# Altium integrated library Xilinx Virtex.IntLib: 240 symbols (part 9 of 34)
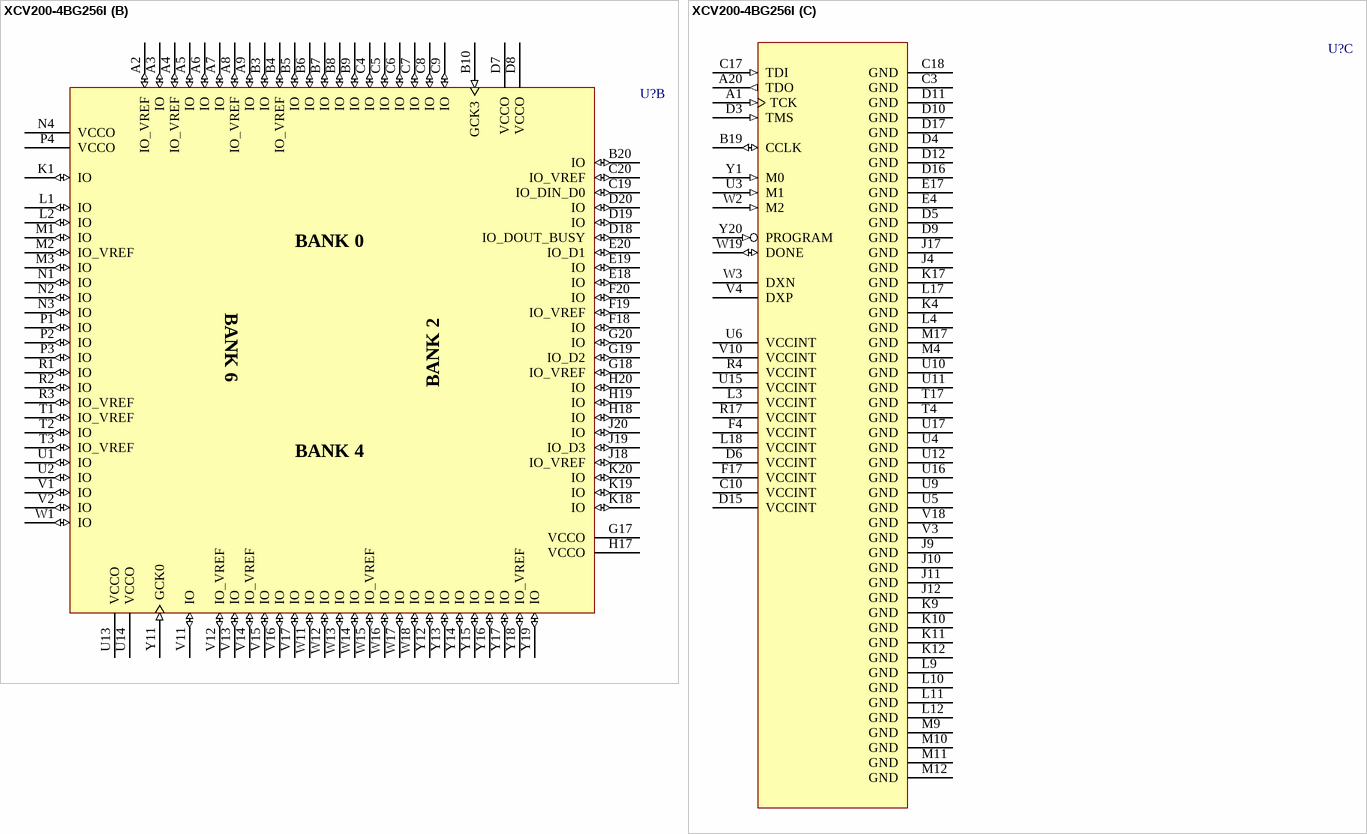
[diagram p388: symbol XCV200-4BG256I]

## XCV200-4BG256I
designator U?
Virtex 2.5V FPGA, 256-Ball Thermally Enhanced BGA, Industrial Grade; PackageDocument: ver1.1, Apr-2001; Note: Solder pads are defined by the copper, i.e. non-soldermask defined (NSMD); 16 extra balls (grounded) at package center; Published: 19-Sep-2001; LatestRevisionDate: 17-Jul-2002; LatestRevisionNote: Re-released for DXP Platform.; DatasheetDocument: Dec-2002; PackageReference: BG256TE; Publisher: Altium Limited
footprint BG256TE (272-Ball Plastic Ball Grid Array (Thermally Enhanced BG256))
3D model XCV200-BG256TE (272-Ball Plastic Ball Grid Array (Thermally Enhanced BG256))
signal-integrity model XCV200_BG256 (Virtex)
part A pins: A10 GCK2 (in), A11 IO (io), A12 IO (io), A13 IO (io), A14 IO (io), A15 IO (io), A16 IO (io), A17 IO_VREF (io), A18 IO (io), A19 IO_WRITE (io), B1 IO (io), B2 IO_VREF (io), B11 IO (io), B12 IO_VREF (io), B13 IO (io), B14 IO (io), B15 IO_VREF (io), B16 IO (io), B17 IO_VREF (io), B18 IO_CS (io), C1 IO (io), C2 IO (io), C11 IO (io), C12 IO (io), C13 IO (io), C14 IO (io), C15 IO (io), C16 IO (io), D1 IO_VREF (io), D2 IO (io), D13 VCCO (power), D14 VCCO (power), E1 IO (io), E2 IO (io), E3 IO (io), F1 IO (io), F2 IO (io), F3 IO (io), G1 IO (io), G2 IO (io), G3 IO_VREF (io), G4 VCCO (power), H1 IO_VREF (io), H2 IO (io), H3 IO (io), H4 VCCO (power), J1 IO (io), J2 IO (io), J3 IO (io), K2 IO (io), K3 IO (io), L19 IO (io), L20 IO (io), M18 IO_VREF (io), M19 IO_D4 (io), M20 IO (io), N17 VCCO (power), N18 IO (io), N19 IO (io), N20 IO (io), P17 VCCO (power), P18 IO_VREF (io), P19 IO_D5 (io), P20 IO (io), R18 IO (io), R19 IO_VREF (io), R20 IO (io), T18 IO (io), T19 IO (io), T20 IO_D6 (io), U7 VCCO (power), U8 VCCO (power), U18 IO_INIT (io), U19 IO (io), U20 IO (io), V5 IO (io), V6 IO (io), V7 IO_VREF (io), V8 IO (io), V9 IO_VREF (io), V19 IO_D7 (io), V20 IO_VREF (io), W4 IO (io), W5 IO (io), W6 IO_VREF (io), W7 IO (io), W8 IO (io), W9 IO (io), W10 IO (io), W20 IO (io), Y2 IO (io), Y3 IO_VREF (io), Y4 IO (io), Y5 IO (io), Y6 IO (io), Y7 IO (io), Y8 IO (io), Y9 IO (io), Y10 GCK1 (in)
part B pins: A2 IO_VREF (io), A3 IO (io), A4 IO_VREF (io), A5 IO (io), A6 IO (io), A7 IO (io), A8 IO_VREF (io), A9 IO (io), B3 IO (io), B4 IO_VREF (io), B5 IO (io), B6 IO (io), B7 IO (io), B8 IO (io), B9 IO (io), B10 GCK3 (in), B20 IO (io), C4 IO (io), C5 IO (io), C6 IO (io), C7 IO (io), C8 IO (io), C9 IO (io), C19 IO_DIN_D0 (io), C20 IO_VREF (io), D7 VCCO (power), D8 VCCO (power), D18 IO_DOUT_BUSY (io), D19 IO (io), D20 IO (io), E18 IO (io), E19 IO (io), E20 IO_D1 (io), F18 IO (io), F19 IO_VREF (io), F20 IO (io), G17 VCCO (power), G18 IO_VREF (io), G19 IO_D2 (io), G20 IO (io), H17 VCCO (power), H18 IO (io), H19 IO (io), H20 IO (io), J18 IO_VREF (io), J19 IO_D3 (io), J20 IO (io), K1 IO (io), K18 IO (io), K19 IO (io), K20 IO (io), L1 IO (io), L2 IO (io), M1 IO (io), M2 IO_VREF (io), M3 IO (io), N1 IO (io), N2 IO (io), N3 IO (io), N4 VCCO (power), P1 IO (io), P2 IO (io), P3 IO (io), P4 VCCO (power), R1 IO (io), R2 IO (io), R3 IO_VREF (io), T1 IO_VREF (io), T2 IO (io), T3 IO_VREF (io), U1 IO (io), U2 IO (io), U13 VCCO (power), U14 VCCO (power), V1 IO (io), V2 IO (io), V11 IO (io), V12 IO_VREF (io), V13 IO (io), V14 IO_VREF (io), V15 IO (io), V16 IO (io), V17 IO (io), W1 IO (io), W11 IO (io), W12 IO (io), W13 IO (io), W14 IO (io), W15 IO_VREF (io), W16 IO (io), W17 IO (io), W18 IO (io), Y11 GCK0 (in), Y12 IO (io), Y13 IO (io), Y14 IO (io), Y15 IO (io), Y16 IO (io), Y17 IO (io), Y18 IO_VREF (io), Y19 IO (io)
part C pins: A1 TCK (in), A20 TDO (out), B19 CCLK (io), C3 GND (power), C10 VCCINT (power), C17 TDI (in), C18 GND (power), D3 TMS (in), D4 GND (power), D5 GND (power), D6 VCCINT (power), D9 GND (power), D10 GND (power), D11 GND (power), D12 GND (power), D15 VCCINT (power), D16 GND (power), D17 GND (power), E4 GND (power), E17 GND (power), F4 VCCINT (power), F17 VCCINT (power), J4 GND (power), J9 GND (power), J10 GND (power), J11 GND (power), J12 GND (power), J17 GND (power), K4 GND (power), K9 GND (power), K10 GND (power), K11 GND (power), K12 GND (power), K17 GND (power), L3 VCCINT (power), L4 GND (power), L9 GND (power), L10 GND (power), L11 GND (power), L12 GND (power), L17 GND (power), L18 VCCINT (power), M4 GND (power), M9 GND (power), M10 GND (power), M11 GND (power), M12 GND (power), M17 GND (power), R4 VCCINT (power), R17 VCCINT (power), T4 GND (power), T17 GND (power), U3 M1 (in), U4 GND (power), U5 GND (power), U6 VCCINT (power), U9 GND (power), U10 GND (power), U11 GND (power), U12 GND (power), U15 VCCINT (power), U16 GND (power), U17 GND (power), V3 GND (power), V4 DXP, V10 VCCINT (power), V18 GND (power), W2 M2 (in), W3 DXN, W19 DONE (io), Y1 M0 (in), Y20 PROGRAM (in)
part A text: BANK 1; BANK 7; BANK 3; BANK 5
part B text: BANK 0; BANK 6; BANK 2; BANK 4

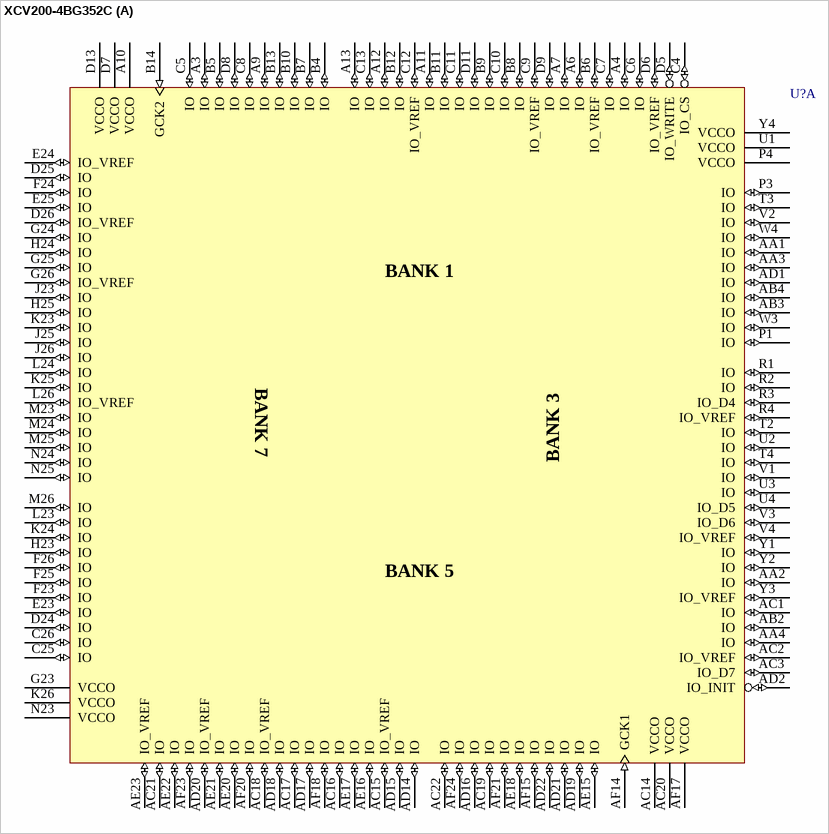
[diagram p89: symbol XCV200-4BG352C]

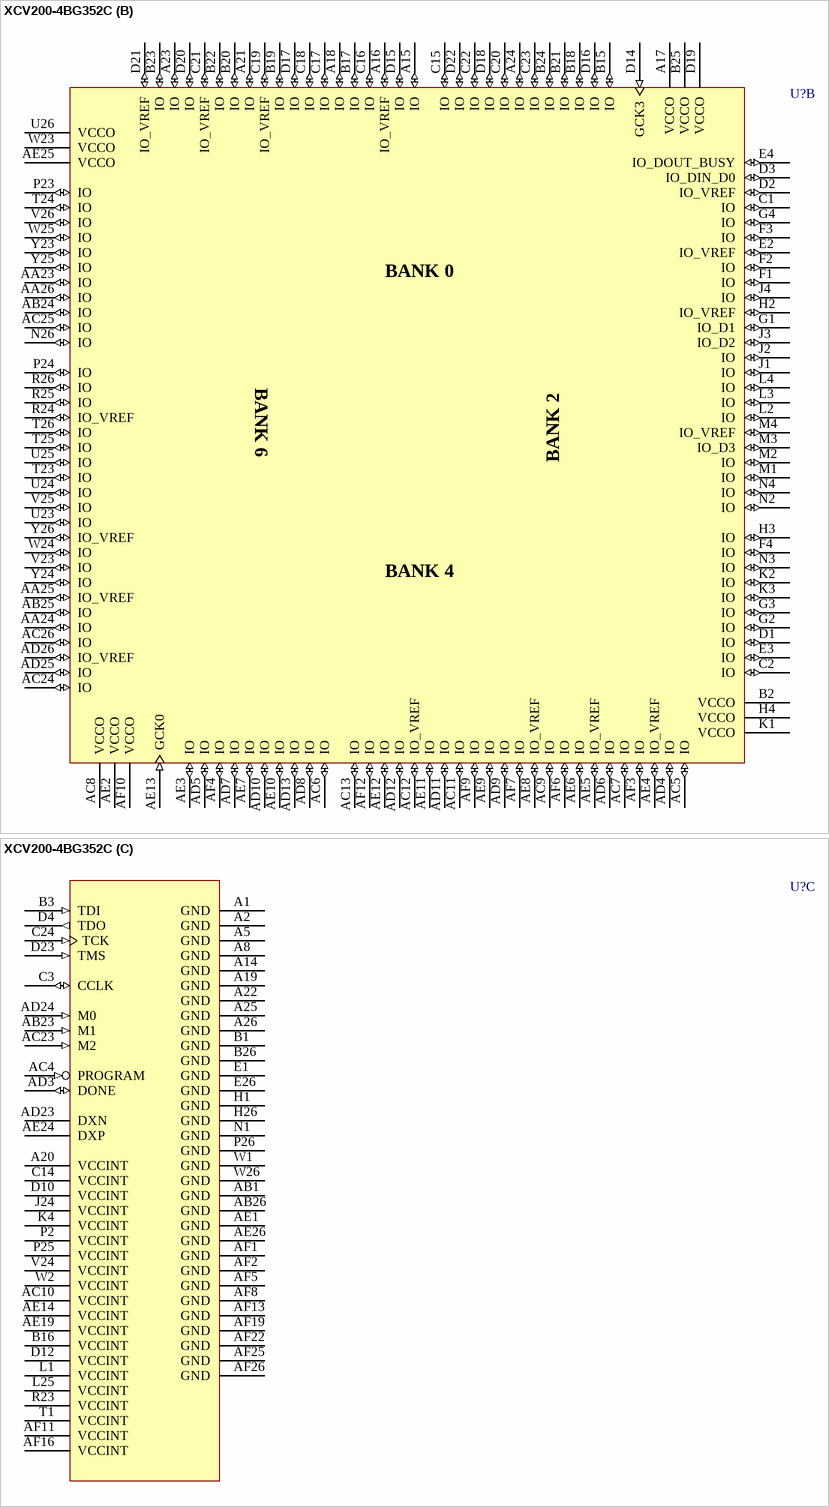
[diagram p90: symbol XCV200-4BG352C]

## XCV200-4BG352C
designator U?
Virtex 2.5V FPGA, 352-Ball BGA, Commercial Grade; PackageDocument: ver1.1, Apr-2001; Note: Solder pads are defined by the copper, i.e. non-soldermask defined (NSMD); Published: 19-Sep-2001; LatestRevisionDate: 17-Jul-2002; LatestRevisionNote: Re-released for DXP Platform.; DatasheetDocument: Dec-2002; PackageReference: BG352; Publisher: Altium Limited; Code_JEDEC: MO-192-BAR-2
footprint BG352 (352-Ball Metal Ball Grid Array (BG352))
3D model XCV200-BG352 (352-Ball Metal Ball Grid Array (BG352))
signal-integrity model XCV200_BG352 (Virtex)
part A pins: A3 IO (io), A4 IO (io), A6 IO (io), A7 IO (io), A9 IO (io), A10 VCCO (power), A11 IO (io), A12 IO (io), A13 IO (io), AA1 IO (io), AA2 IO (io), AA3 IO (io), AA4 IO (io), AB2 IO (io), AB3 IO (io), AB4 IO (io), AC1 IO (io), AC2 IO_VREF (io), AC3 IO_D7 (io), AC14 VCCO (power), AC15 IO_VREF (io), AC16 IO (io), AC17 IO (io), AC18 IO_VREF (io), AC19 IO (io), AC20 VCCO (power), AC21 IO (io), AC22 IO (io), AD1 IO (io), AD2 IO_INIT (io), AD14 IO (io), AD15 IO (io), AD16 IO (io), AD17 IO (io), AD18 IO (io), AD19 IO (io), AD20 IO_VREF (io), AD21 IO (io), AD22 IO (io), AE15 IO (io), AE16 IO (io), AE17 IO (io), AE18 IO (io), AE20 IO (io), AE21 IO (io), AE22 IO (io), AE23 IO_VREF (io), AF14 GCK1 (in), AF15 IO (io), AF17 VCCO (power), AF18 IO (io), AF20 IO (io), AF21 IO (io), AF23 IO (io), AF24 IO (io), B4 IO (io), B5 IO (io), B6 IO_VREF (io), B7 IO (io), B8 IO (io), B9 IO (io), B10 IO (io), B11 IO (io), B12 IO (io), B13 IO (io), B14 GCK2 (in), C4 IO_CS (io), C5 IO (io), C6 IO (io), C7 IO (io), C8 IO (io), C9 IO_VREF (io), C10 IO (io), C11 IO (io), C12 IO_VREF (io), C13 IO (io), C25 IO (io), C26 IO (io), D5 IO_WRITE (io), D6 IO_VREF (io), D7 VCCO (power), D8 IO (io), D9 IO (io), D11 IO (io), D13 VCCO (power), D24 IO (io), D25 IO (io), D26 IO_VREF (io), E23 IO (io), E24 IO_VREF (io), E25 IO (io), F23 IO (io), F24 IO (io), F25 IO (io), F26 IO (io), G23 VCCO (power), G24 IO (io), G25 IO (io), G26 IO_VREF (io), H23 IO (io), H24 IO (io), H25 IO (io), J23 IO (io), J25 IO (io), J26 IO (io), K23 IO (io), K24 IO (io), K25 IO (io), K26 VCCO (power), L23 IO (io), L24 IO (io), L26 IO_VREF (io), M23 IO (io), M24 IO (io), M25 IO (io), M26 IO (io), N23 VCCO (power), N24 IO (io), N25 IO (io), P1 IO (io), P3 IO (io), P4 VCCO (power), R1 IO (io), R2 IO (io), R3 IO_D4 (io), R4 IO_VREF (io), T2 IO (io), T3 IO (io), T4 IO (io), U1 VCCO (power), U2 IO (io), U3 IO (io), U4 IO_D5 (io), V1 IO (io), V2 IO (io), V3 IO_D6 (io), V4 IO_VREF (io), W3 IO (io), W4 IO (io), Y1 IO (io), Y2 IO (io), Y3 IO_VREF (io), Y4 VCCO (power)
part B pins: A15 IO (io), A16 IO_VREF (io), A17 VCCO (power), A18 IO (io), A21 IO (io), A23 IO (io), A24 IO (io), AA23 IO (io), AA24 IO (io), AA25 IO_VREF (io), AA26 IO (io), AB24 IO (io), AB25 IO (io), AC5 IO (io), AC6 IO (io), AC7 IO (io), AC8 VCCO (power), AC9 IO (io), AC11 IO (io), AC12 IO_VREF (io), AC13 IO (io), AC24 IO (io), AC25 IO (io), AC26 IO (io), AD4 IO (io), AD5 IO (io), AD6 IO (io), AD7 IO (io), AD8 IO (io), AD9 IO (io), AD10 IO (io), AD11 IO (io), AD12 IO (io), AD13 IO (io), AD25 IO (io), AD26 IO_VREF (io), AE2 VCCO (power), AE3 IO (io), AE4 IO_VREF (io), AE5 IO_VREF (io), AE6 IO (io), AE7 IO (io), AE8 IO_VREF (io), AE9 IO (io), AE10 IO (io), AE11 IO (io), AE12 IO (io), AE13 GCK0 (in), AE25 VCCO (power), AF3 IO (io), AF4 IO (io), AF6 IO (io), AF7 IO (io), AF9 IO (io), AF10 VCCO (power), AF12 IO (io), B2 VCCO (power), B15 IO (io), B17 IO (io), B18 IO (io), B19 IO (io), B20 IO (io), B21 IO (io), B22 IO (io), B23 IO (io), B24 IO (io), B25 VCCO (power), C1 IO (io), C2 IO (io), C15 IO (io), C16 IO (io), C17 IO (io), C18 IO (io), C19 IO_VREF (io), C20 IO (io), C21 IO_VREF (io), C22 IO (io), C23 IO (io), D1 IO (io), D2 IO_VREF (io), D3 IO_DIN_D0 (io), D14 GCK3 (in), D15 IO (io), D16 IO (io), D17 IO (io), D18 IO (io), D19 VCCO (power), D20 IO (io), D21 IO_VREF (io), D22 IO (io), E2 IO_VREF (io), E3 IO (io), E4 IO_DOUT_BUSY (io), F1 IO (io), F2 IO (io), F3 IO (io), F4 IO (io), G1 IO_D1 (io), G2 IO (io), G3 IO (io), G4 IO (io), H2 IO_VREF (io), H3 IO (io), H4 VCCO (power), J1 IO (io), J2 IO (io), J3 IO_D2 (io), J4 IO (io), K1 VCCO (power), K2 IO (io), K3 IO (io), L2 IO (io), L3 IO (io), L4 IO (io), M1 IO (io), M2 IO (io), M3 IO_D3 (io), M4 IO_VREF (io), N2 IO (io), N3 IO (io), N4 IO (io), N26 IO (io), P23 IO (io), P24 IO (io), R24 IO_VREF (io), R25 IO (io), R26 IO (io), T23 IO (io), T24 IO (io), T25 IO (io), T26 IO (io), U23 IO (io), U24 IO (io), U25 IO (io), U26 VCCO (power), V23 IO (io), V25 IO (io), V26 IO (io), W23 VCCO (power), W24 IO (io), W25 IO (io), Y23 IO (io), Y24 IO (io), Y25 IO (io), Y26 IO_VREF (io)
part C pins: A1 GND (power), A2 GND (power), A5 GND (power), A8 GND (power), A14 GND (power), A19 GND (power), A20 VCCINT (power), A22 GND (power), A25 GND (power), A26 GND (power), AB1 GND (power), AB23 M1 (in), AB26 GND (power), AC4 PROGRAM (in), AC10 VCCINT (power), AC23 M2 (in), AD3 DONE (io), AD23 DXN, AD24 M0 (in), AE1 GND (power), AE14 VCCINT (power), AE19 VCCINT (power), AE24 DXP, AE26 GND (power), AF1 GND (power), AF2 GND (power), AF5 GND (power), AF8 GND (power), AF11 VCCINT (power), AF13 GND (power), AF16 VCCINT (power), AF19 GND (power), AF22 GND (power), AF25 GND (power), AF26 GND (power), B1 GND (power), B3 TDI (in), B16 VCCINT (power), B26 GND (power), C3 CCLK (io), C14 VCCINT (power), C24 TCK (in), D4 TDO (out), D10 VCCINT (power), D12 VCCINT (power), D23 TMS (in), E1 GND (power), E26 GND (power), H1 GND (power), H26 GND (power), J24 VCCINT (power), K4 VCCINT (power), L1 VCCINT (power), L25 VCCINT (power), N1 GND (power), P2 VCCINT (power), P25 VCCINT (power), P26 GND (power), R23 VCCINT (power), T1 VCCINT (power), V24 VCCINT (power), W1 GND (power), W2 VCCINT (power), W26 GND (power)
part A text: BANK 1; BANK 7; BANK 3; BANK 5
part B text: BANK 0; BANK 6; BANK 2; BANK 4

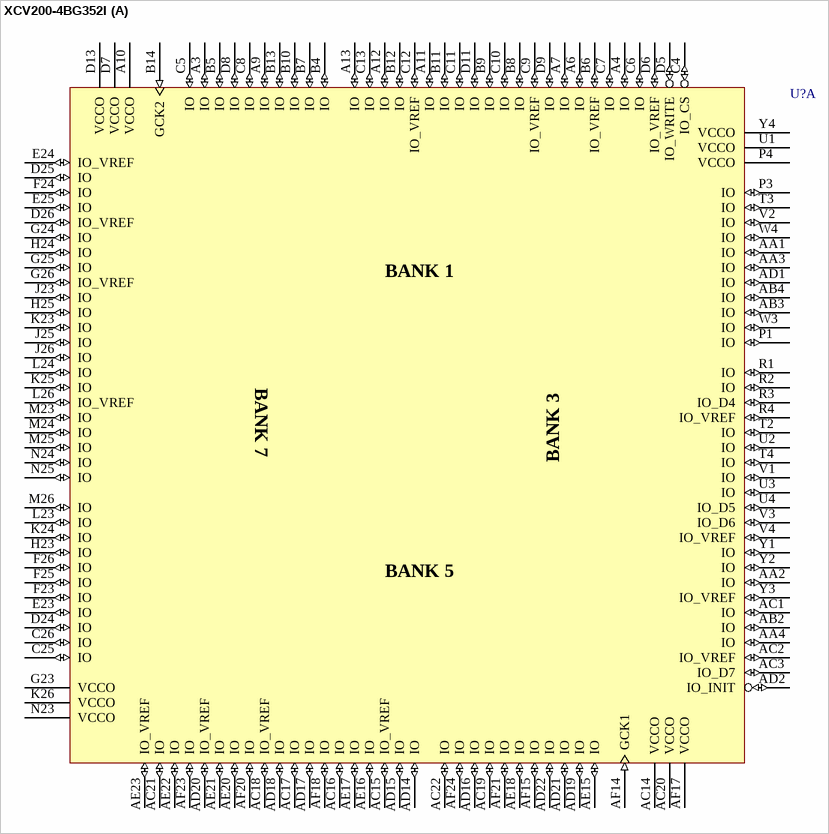
[diagram p91: symbol XCV200-4BG352I]

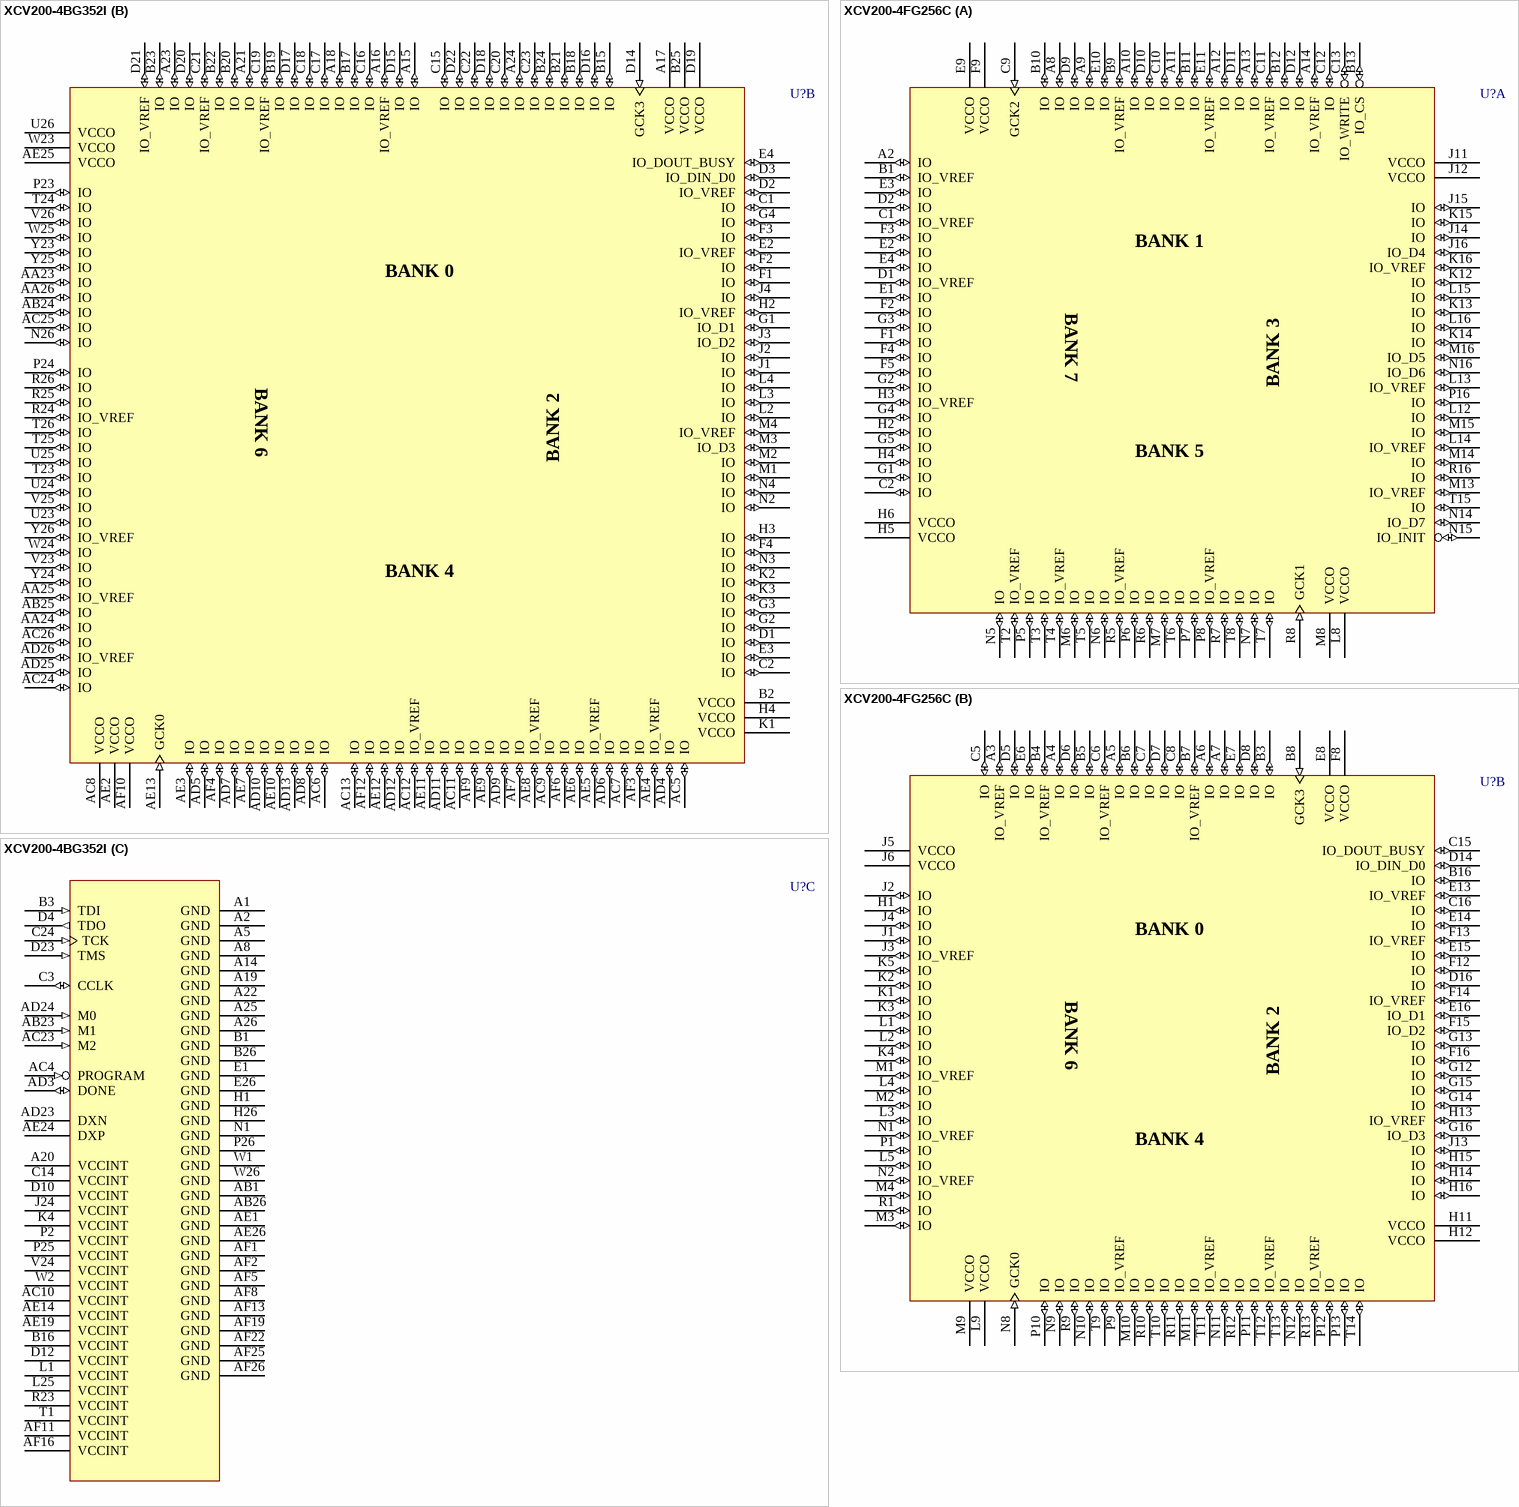
[diagram p92: symbols XCV200-4BG352I to XCV200-4FG256C]

## XCV200-4BG352I
designator U?
Virtex 2.5V FPGA, 352-Ball BGA, Industrial Grade; PackageDocument: ver1.1, Apr-2001; Note: Solder pads are defined by the copper, i.e. non-soldermask defined (NSMD); Published: 19-Sep-2001; LatestRevisionDate: 17-Jul-2002; LatestRevisionNote: Re-released for DXP Platform.; DatasheetDocument: Dec-2002; PackageReference: BG352; Publisher: Altium Limited; Code_JEDEC: MO-192-BAR-2
footprint BG352 (352-Ball Metal Ball Grid Array (BG352))
3D model XCV200-BG352 (352-Ball Metal Ball Grid Array (BG352))
signal-integrity model XCV200_BG352 (Virtex)
part A pins: A3 IO (io), A4 IO (io), A6 IO (io), A7 IO (io), A9 IO (io), A10 VCCO (power), A11 IO (io), A12 IO (io), A13 IO (io), AA1 IO (io), AA2 IO (io), AA3 IO (io), AA4 IO (io), AB2 IO (io), AB3 IO (io), AB4 IO (io), AC1 IO (io), AC2 IO_VREF (io), AC3 IO_D7 (io), AC14 VCCO (power), AC15 IO_VREF (io), AC16 IO (io), AC17 IO (io), AC18 IO_VREF (io), AC19 IO (io), AC20 VCCO (power), AC21 IO (io), AC22 IO (io), AD1 IO (io), AD2 IO_INIT (io), AD14 IO (io), AD15 IO (io), AD16 IO (io), AD17 IO (io), AD18 IO (io), AD19 IO (io), AD20 IO_VREF (io), AD21 IO (io), AD22 IO (io), AE15 IO (io), AE16 IO (io), AE17 IO (io), AE18 IO (io), AE20 IO (io), AE21 IO (io), AE22 IO (io), AE23 IO_VREF (io), AF14 GCK1 (in), AF15 IO (io), AF17 VCCO (power), AF18 IO (io), AF20 IO (io), AF21 IO (io), AF23 IO (io), AF24 IO (io), B4 IO (io), B5 IO (io), B6 IO_VREF (io), B7 IO (io), B8 IO (io), B9 IO (io), B10 IO (io), B11 IO (io), B12 IO (io), B13 IO (io), B14 GCK2 (in), C4 IO_CS (io), C5 IO (io), C6 IO (io), C7 IO (io), C8 IO (io), C9 IO_VREF (io), C10 IO (io), C11 IO (io), C12 IO_VREF (io), C13 IO (io), C25 IO (io), C26 IO (io), D5 IO_WRITE (io), D6 IO_VREF (io), D7 VCCO (power), D8 IO (io), D9 IO (io), D11 IO (io), D13 VCCO (power), D24 IO (io), D25 IO (io), D26 IO_VREF (io), E23 IO (io), E24 IO_VREF (io), E25 IO (io), F23 IO (io), F24 IO (io), F25 IO (io), F26 IO (io), G23 VCCO (power), G24 IO (io), G25 IO (io), G26 IO_VREF (io), H23 IO (io), H24 IO (io), H25 IO (io), J23 IO (io), J25 IO (io), J26 IO (io), K23 IO (io), K24 IO (io), K25 IO (io), K26 VCCO (power), L23 IO (io), L24 IO (io), L26 IO_VREF (io), M23 IO (io), M24 IO (io), M25 IO (io), M26 IO (io), N23 VCCO (power), N24 IO (io), N25 IO (io), P1 IO (io), P3 IO (io), P4 VCCO (power), R1 IO (io), R2 IO (io), R3 IO_D4 (io), R4 IO_VREF (io), T2 IO (io), T3 IO (io), T4 IO (io), U1 VCCO (power), U2 IO (io), U3 IO (io), U4 IO_D5 (io), V1 IO (io), V2 IO (io), V3 IO_D6 (io), V4 IO_VREF (io), W3 IO (io), W4 IO (io), Y1 IO (io), Y2 IO (io), Y3 IO_VREF (io), Y4 VCCO (power)
part B pins: A15 IO (io), A16 IO_VREF (io), A17 VCCO (power), A18 IO (io), A21 IO (io), A23 IO (io), A24 IO (io), AA23 IO (io), AA24 IO (io), AA25 IO_VREF (io), AA26 IO (io), AB24 IO (io), AB25 IO (io), AC5 IO (io), AC6 IO (io), AC7 IO (io), AC8 VCCO (power), AC9 IO (io), AC11 IO (io), AC12 IO_VREF (io), AC13 IO (io), AC24 IO (io), AC25 IO (io), AC26 IO (io), AD4 IO (io), AD5 IO (io), AD6 IO (io), AD7 IO (io), AD8 IO (io), AD9 IO (io), AD10 IO (io), AD11 IO (io), AD12 IO (io), AD13 IO (io), AD25 IO (io), AD26 IO_VREF (io), AE2 VCCO (power), AE3 IO (io), AE4 IO_VREF (io), AE5 IO_VREF (io), AE6 IO (io), AE7 IO (io), AE8 IO_VREF (io), AE9 IO (io), AE10 IO (io), AE11 IO (io), AE12 IO (io), AE13 GCK0 (in), AE25 VCCO (power), AF3 IO (io), AF4 IO (io), AF6 IO (io), AF7 IO (io), AF9 IO (io), AF10 VCCO (power), AF12 IO (io), B2 VCCO (power), B15 IO (io), B17 IO (io), B18 IO (io), B19 IO (io), B20 IO (io), B21 IO (io), B22 IO (io), B23 IO (io), B24 IO (io), B25 VCCO (power), C1 IO (io), C2 IO (io), C15 IO (io), C16 IO (io), C17 IO (io), C18 IO (io), C19 IO_VREF (io), C20 IO (io), C21 IO_VREF (io), C22 IO (io), C23 IO (io), D1 IO (io), D2 IO_VREF (io), D3 IO_DIN_D0 (io), D14 GCK3 (in), D15 IO (io), D16 IO (io), D17 IO (io), D18 IO (io), D19 VCCO (power), D20 IO (io), D21 IO_VREF (io), D22 IO (io), E2 IO_VREF (io), E3 IO (io), E4 IO_DOUT_BUSY (io), F1 IO (io), F2 IO (io), F3 IO (io), F4 IO (io), G1 IO_D1 (io), G2 IO (io), G3 IO (io), G4 IO (io), H2 IO_VREF (io), H3 IO (io), H4 VCCO (power), J1 IO (io), J2 IO (io), J3 IO_D2 (io), J4 IO (io), K1 VCCO (power), K2 IO (io), K3 IO (io), L2 IO (io), L3 IO (io), L4 IO (io), M1 IO (io), M2 IO (io), M3 IO_D3 (io), M4 IO_VREF (io), N2 IO (io), N3 IO (io), N4 IO (io), N26 IO (io), P23 IO (io), P24 IO (io), R24 IO_VREF (io), R25 IO (io), R26 IO (io), T23 IO (io), T24 IO (io), T25 IO (io), T26 IO (io), U23 IO (io), U24 IO (io), U25 IO (io), U26 VCCO (power), V23 IO (io), V25 IO (io), V26 IO (io), W23 VCCO (power), W24 IO (io), W25 IO (io), Y23 IO (io), Y24 IO (io), Y25 IO (io), Y26 IO_VREF (io)
part C pins: A1 GND (power), A2 GND (power), A5 GND (power), A8 GND (power), A14 GND (power), A19 GND (power), A20 VCCINT (power), A22 GND (power), A25 GND (power), A26 GND (power), AB1 GND (power), AB23 M1 (in), AB26 GND (power), AC4 PROGRAM (in), AC10 VCCINT (power), AC23 M2 (in), AD3 DONE (io), AD23 DXN, AD24 M0 (in), AE1 GND (power), AE14 VCCINT (power), AE19 VCCINT (power), AE24 DXP, AE26 GND (power), AF1 GND (power), AF2 GND (power), AF5 GND (power), AF8 GND (power), AF11 VCCINT (power), AF13 GND (power), AF16 VCCINT (power), AF19 GND (power), AF22 GND (power), AF25 GND (power), AF26 GND (power), B1 GND (power), B3 TDI (in), B16 VCCINT (power), B26 GND (power), C3 CCLK (io), C14 VCCINT (power), C24 TCK (in), D4 TDO (out), D10 VCCINT (power), D12 VCCINT (power), D23 TMS (in), E1 GND (power), E26 GND (power), H1 GND (power), H26 GND (power), J24 VCCINT (power), K4 VCCINT (power), L1 VCCINT (power), L25 VCCINT (power), N1 GND (power), P2 VCCINT (power), P25 VCCINT (power), P26 GND (power), R23 VCCINT (power), T1 VCCINT (power), V24 VCCINT (power), W1 GND (power), W2 VCCINT (power), W26 GND (power)
part A text: BANK 1; BANK 7; BANK 3; BANK 5
part B text: BANK 0; BANK 6; BANK 2; BANK 4

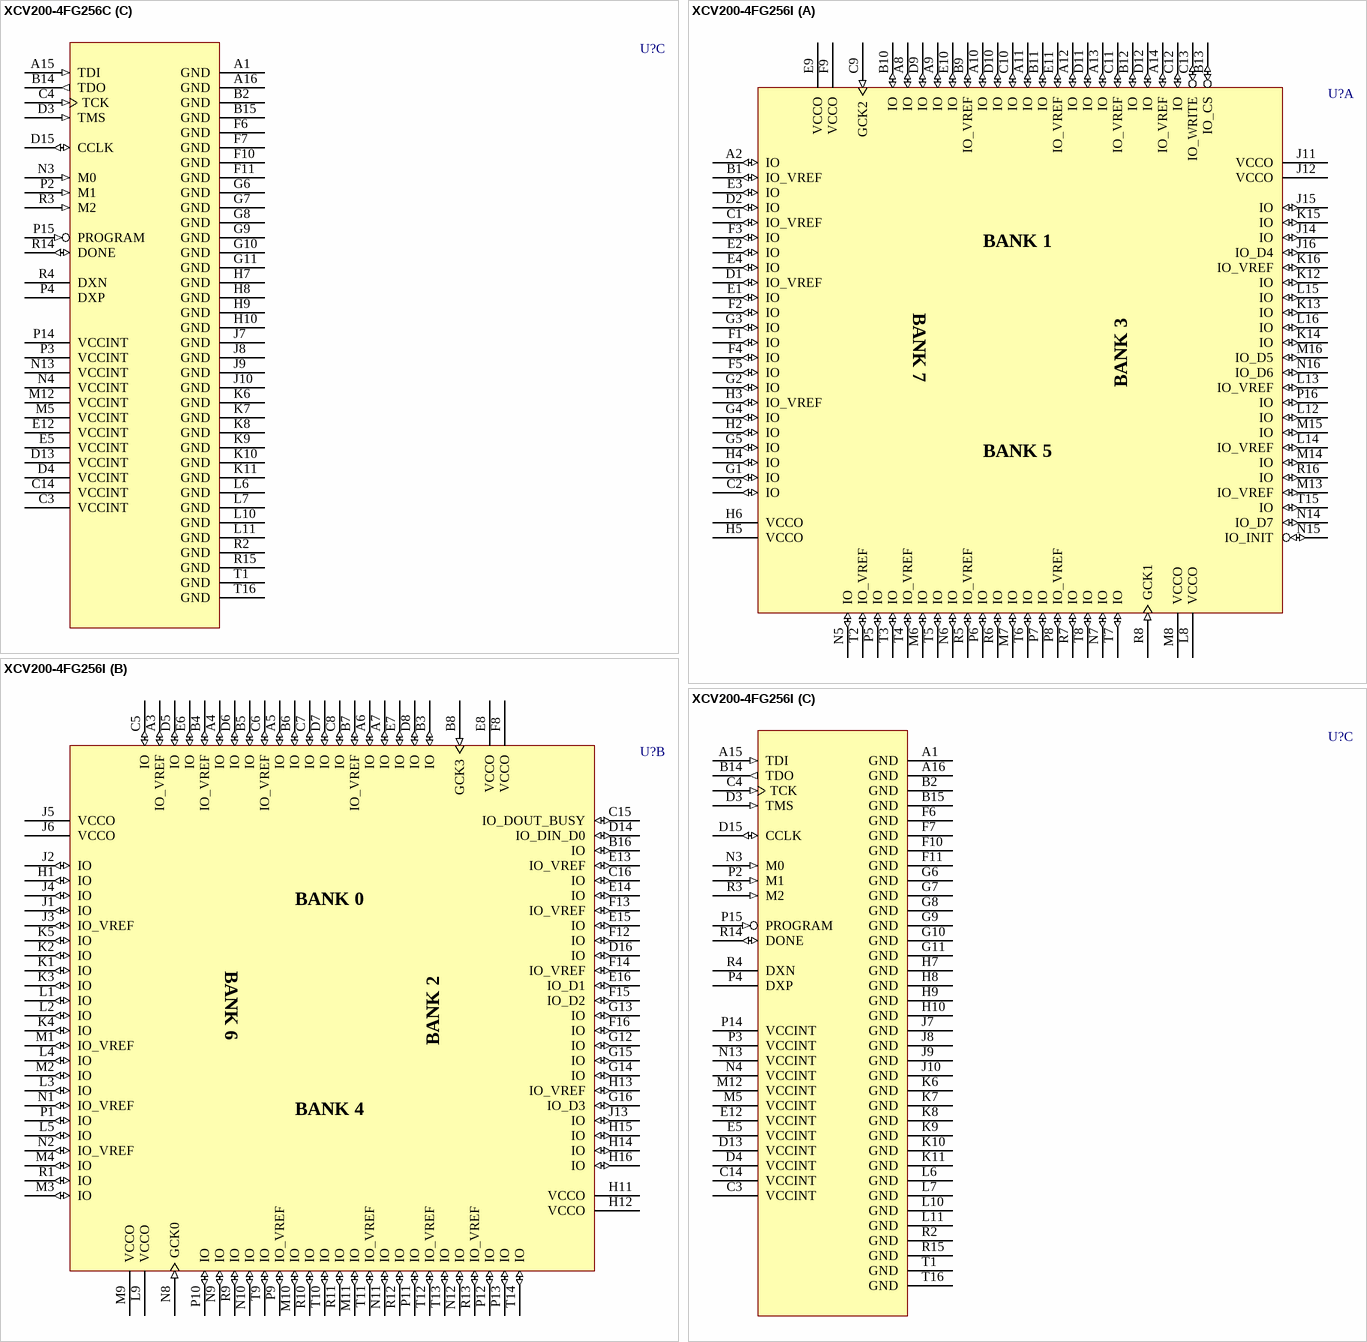
[diagram p93: symbols XCV200-4FG256C to XCV200-4FG256I]

## XCV200-4FG256C
designator U?
Virtex 2.5V FPGA, 256-Ball FBGA, Commercial Grade; PackageDocument: ver1.1, Apr-2001; Note: Solder pads are defined by the copper, i.e. non-soldermask defined (NSMD); Published: 19-Sep-2001; LatestRevisionDate: 17-Jul-2002; LatestRevisionNote: Re-released for DXP Platform.; DatasheetDocument: Dec-2002; PackageReference: FG256; Publisher: Altium Limited; Code_JEDEC: MO-151-AAF-1; Code_IPC: PBGA 17X17 FE256
footprint FG256 (256-Ball Fine Pitch Ball Grid Array (FG256))
3D model XCV200-FG256 (256-Ball Fine Pitch Ball Grid Array (FG256))
signal-integrity model XCV200_FG256 (Virtex)
part A pins: A2 IO (io), A8 IO (io), A9 IO (io), A10 IO (io), A11 IO (io), A12 IO (io), A13 IO (io), A14 IO_VREF (io), B1 IO_VREF (io), B9 IO_VREF (io), B10 IO (io), B11 IO (io), B12 IO (io), B13 IO_CS (io), C1 IO_VREF (io), C2 IO (io), C9 GCK2 (in), C10 IO (io), C11 IO_VREF (io), C12 IO (io), C13 IO_WRITE (io), D1 IO_VREF (io), D2 IO (io), D9 IO (io), D10 IO (io), D11 IO (io), D12 IO (io), E1 IO (io), E2 IO (io), E3 IO (io), E4 IO (io), E9 VCCO (power), E10 IO (io), E11 IO_VREF (io), F1 IO (io), F2 IO (io), F3 IO (io), F4 IO (io), F5 IO (io), F9 VCCO (power), G1 IO (io), G2 IO (io), G3 IO (io), G4 IO (io), G5 IO (io), H2 IO (io), H3 IO_VREF (io), H4 IO (io), H5 VCCO (power), H6 VCCO (power), J11 VCCO (power), J12 VCCO (power), J14 IO (io), J15 IO (io), J16 IO_D4 (io), K12 IO (io), K13 IO (io), K14 IO (io), K15 IO (io), K16 IO_VREF (io), L8 VCCO (power), L12 IO (io), L13 IO_VREF (io), L14 IO_VREF (io), L15 IO (io), L16 IO (io), M6 IO (io), M7 IO (io), M8 VCCO (power), M13 IO_VREF (io), M14 IO (io), M15 IO (io), M16 IO_D5 (io), N5 IO (io), N6 IO (io), N7 IO (io), N14 IO_D7 (io), N15 IO_INIT (io), N16 IO_D6 (io), P5 IO (io), P6 IO (io), P7 IO (io), P8 IO_VREF (io), P16 IO (io), R5 IO_VREF (io), R6 IO (io), R7 IO (io), R8 GCK1 (in), R16 IO (io), T2 IO_VREF (io), T3 IO (io), T4 IO_VREF (io), T5 IO (io), T6 IO (io), T7 IO (io), T8 IO (io), T15 IO (io)
part B pins: A3 IO_VREF (io), A4 IO (io), A5 IO (io), A6 IO (io), A7 IO (io), B3 IO (io), B4 IO_VREF (io), B5 IO (io), B6 IO (io), B7 IO_VREF (io), B8 GCK3 (in), B16 IO (io), C5 IO (io), C6 IO_VREF (io), C7 IO (io), C8 IO (io), C15 IO_DOUT_BUSY (io), C16 IO (io), D5 IO (io), D6 IO (io), D7 IO (io), D8 IO (io), D14 IO_DIN_D0 (io), D16 IO (io), E6 IO (io), E7 IO (io), E8 VCCO (power), E13 IO_VREF (io), E14 IO (io), E15 IO (io), E16 IO_D1 (io), F8 VCCO (power), F12 IO (io), F13 IO_VREF (io), F14 IO_VREF (io), F15 IO_D2 (io), F16 IO (io), G12 IO (io), G13 IO (io), G14 IO (io), G15 IO (io), G16 IO_D3 (io), H1 IO (io), H11 VCCO (power), H12 VCCO (power), H13 IO_VREF (io), H14 IO (io), H15 IO (io), H16 IO (io), J1 IO (io), J2 IO (io), J3 IO_VREF (io), J4 IO (io), J5 VCCO (power), J6 VCCO (power), J13 IO (io), K1 IO (io), K2 IO (io), K3 IO (io), K4 IO (io), K5 IO (io), L1 IO (io), L2 IO (io), L3 IO (io), L4 IO (io), L5 IO (io), L9 VCCO (power), M1 IO_VREF (io), M2 IO (io), M3 IO (io), M4 IO (io), M9 VCCO (power), M10 IO (io), M11 IO (io), N1 IO_VREF (io), N2 IO_VREF (io), N8 GCK0 (in), N9 IO (io), N10 IO (io), N11 IO (io), N12 IO (io), P1 IO (io), P9 IO_VREF (io), P10 IO (io), P11 IO (io), P12 IO (io), P13 IO (io), R1 IO (io), R9 IO (io), R10 IO (io), R11 IO (io), R12 IO (io), R13 IO_VREF (io), T9 IO (io), T10 IO (io), T11 IO_VREF (io), T12 IO_VREF (io), T13 IO (io), T14 IO (io)
part C pins: A1 GND (power), A15 TDI (in), A16 GND (power), B2 GND (power), B14 TDO (out), B15 GND (power), C3 VCCINT (power), C4 TCK (in), C14 VCCINT (power), D3 TMS (in), D4 VCCINT (power), D13 VCCINT (power), D15 CCLK (io), E5 VCCINT (power), E12 VCCINT (power), F6 GND (power), F7 GND (power), F10 GND (power), F11 GND (power), G6 GND (power), G7 GND (power), G8 GND (power), G9 GND (power), G10 GND (power), G11 GND (power), H7 GND (power), H8 GND (power), H9 GND (power), H10 GND (power), J7 GND (power), J8 GND (power), J9 GND (power), J10 GND (power), K6 GND (power), K7 GND (power), K8 GND (power), K9 GND (power), K10 GND (power), K11 GND (power), L6 GND (power), L7 GND (power), L10 GND (power), L11 GND (power), M5 VCCINT (power), M12 VCCINT (power), N3 M0 (in), N4 VCCINT (power), N13 VCCINT (power), P2 M1 (in), P3 VCCINT (power), P4 DXP, P14 VCCINT (power), P15 PROGRAM (in), R2 GND (power), R3 M2 (in), R4 DXN, R14 DONE (io), R15 GND (power), T1 GND (power), T16 GND (power)
part A text: BANK 1; BANK 7; BANK 3; BANK 5
part B text: BANK 0; BANK 6; BANK 2; BANK 4

## XCV200-4FG256I
designator U?
Virtex 2.5V FPGA, 256-Ball FBGA, Industrial Grade; PackageDocument: ver1.1, Apr-2001; Note: Solder pads are defined by the copper, i.e. non-soldermask defined (NSMD); Published: 19-Sep-2001; LatestRevisionDate: 17-Jul-2002; LatestRevisionNote: Re-released for DXP Platform.; DatasheetDocument: Dec-2002; PackageReference: FG256; Publisher: Altium Limited; Code_JEDEC: MO-151-AAF-1; Code_IPC: PBGA 17X17 FE256
footprint FG256 (256-Ball Fine Pitch Ball Grid Array (FG256))
3D model XCV200-FG256 (256-Ball Fine Pitch Ball Grid Array (FG256))
signal-integrity model XCV200_FG256 (Virtex)
part A pins: A2 IO (io), A8 IO (io), A9 IO (io), A10 IO (io), A11 IO (io), A12 IO (io), A13 IO (io), A14 IO_VREF (io), B1 IO_VREF (io), B9 IO_VREF (io), B10 IO (io), B11 IO (io), B12 IO (io), B13 IO_CS (io), C1 IO_VREF (io), C2 IO (io), C9 GCK2 (in), C10 IO (io), C11 IO_VREF (io), C12 IO (io), C13 IO_WRITE (io), D1 IO_VREF (io), D2 IO (io), D9 IO (io), D10 IO (io), D11 IO (io), D12 IO (io), E1 IO (io), E2 IO (io), E3 IO (io), E4 IO (io), E9 VCCO (power), E10 IO (io), E11 IO_VREF (io), F1 IO (io), F2 IO (io), F3 IO (io), F4 IO (io), F5 IO (io), F9 VCCO (power), G1 IO (io), G2 IO (io), G3 IO (io), G4 IO (io), G5 IO (io), H2 IO (io), H3 IO_VREF (io), H4 IO (io), H5 VCCO (power), H6 VCCO (power), J11 VCCO (power), J12 VCCO (power), J14 IO (io), J15 IO (io), J16 IO_D4 (io), K12 IO (io), K13 IO (io), K14 IO (io), K15 IO (io), K16 IO_VREF (io), L8 VCCO (power), L12 IO (io), L13 IO_VREF (io), L14 IO_VREF (io), L15 IO (io), L16 IO (io), M6 IO (io), M7 IO (io), M8 VCCO (power), M13 IO_VREF (io), M14 IO (io), M15 IO (io), M16 IO_D5 (io), N5 IO (io), N6 IO (io), N7 IO (io), N14 IO_D7 (io), N15 IO_INIT (io), N16 IO_D6 (io), P5 IO (io), P6 IO (io), P7 IO (io), P8 IO_VREF (io), P16 IO (io), R5 IO_VREF (io), R6 IO (io), R7 IO (io), R8 GCK1 (in), R16 IO (io), T2 IO_VREF (io), T3 IO (io), T4 IO_VREF (io), T5 IO (io), T6 IO (io), T7 IO (io), T8 IO (io), T15 IO (io)
part B pins: A3 IO_VREF (io), A4 IO (io), A5 IO (io), A6 IO (io), A7 IO (io), B3 IO (io), B4 IO_VREF (io), B5 IO (io), B6 IO (io), B7 IO_VREF (io), B8 GCK3 (in), B16 IO (io), C5 IO (io), C6 IO_VREF (io), C7 IO (io), C8 IO (io), C15 IO_DOUT_BUSY (io), C16 IO (io), D5 IO (io), D6 IO (io), D7 IO (io), D8 IO (io), D14 IO_DIN_D0 (io), D16 IO (io), E6 IO (io), E7 IO (io), E8 VCCO (power), E13 IO_VREF (io), E14 IO (io), E15 IO (io), E16 IO_D1 (io), F8 VCCO (power), F12 IO (io), F13 IO_VREF (io), F14 IO_VREF (io), F15 IO_D2 (io), F16 IO (io), G12 IO (io), G13 IO (io), G14 IO (io), G15 IO (io), G16 IO_D3 (io), H1 IO (io), H11 VCCO (power), H12 VCCO (power), H13 IO_VREF (io), H14 IO (io), H15 IO (io), H16 IO (io), J1 IO (io), J2 IO (io), J3 IO_VREF (io), J4 IO (io), J5 VCCO (power), J6 VCCO (power), J13 IO (io), K1 IO (io), K2 IO (io), K3 IO (io), K4 IO (io), K5 IO (io), L1 IO (io), L2 IO (io), L3 IO (io), L4 IO (io), L5 IO (io), L9 VCCO (power), M1 IO_VREF (io), M2 IO (io), M3 IO (io), M4 IO (io), M9 VCCO (power), M10 IO (io), M11 IO (io), N1 IO_VREF (io), N2 IO_VREF (io), N8 GCK0 (in), N9 IO (io), N10 IO (io), N11 IO (io), N12 IO (io), P1 IO (io), P9 IO_VREF (io), P10 IO (io), P11 IO (io), P12 IO (io), P13 IO (io), R1 IO (io), R9 IO (io), R10 IO (io), R11 IO (io), R12 IO (io), R13 IO_VREF (io), T9 IO (io), T10 IO (io), T11 IO_VREF (io), T12 IO_VREF (io), T13 IO (io), T14 IO (io)
part C pins: A1 GND (power), A15 TDI (in), A16 GND (power), B2 GND (power), B14 TDO (out), B15 GND (power), C3 VCCINT (power), C4 TCK (in), C14 VCCINT (power), D3 TMS (in), D4 VCCINT (power), D13 VCCINT (power), D15 CCLK (io), E5 VCCINT (power), E12 VCCINT (power), F6 GND (power), F7 GND (power), F10 GND (power), F11 GND (power), G6 GND (power), G7 GND (power), G8 GND (power), G9 GND (power), G10 GND (power), G11 GND (power), H7 GND (power), H8 GND (power), H9 GND (power), H10 GND (power), J7 GND (power), J8 GND (power), J9 GND (power), J10 GND (power), K6 GND (power), K7 GND (power), K8 GND (power), K9 GND (power), K10 GND (power), K11 GND (power), L6 GND (power), L7 GND (power), L10 GND (power), L11 GND (power), M5 VCCINT (power), M12 VCCINT (power), N3 M0 (in), N4 VCCINT (power), N13 VCCINT (power), P2 M1 (in), P3 VCCINT (power), P4 DXP, P14 VCCINT (power), P15 PROGRAM (in), R2 GND (power), R3 M2 (in), R4 DXN, R14 DONE (io), R15 GND (power), T1 GND (power), T16 GND (power)
part A text: BANK 1; BANK 7; BANK 3; BANK 5
part B text: BANK 0; BANK 6; BANK 2; BANK 4

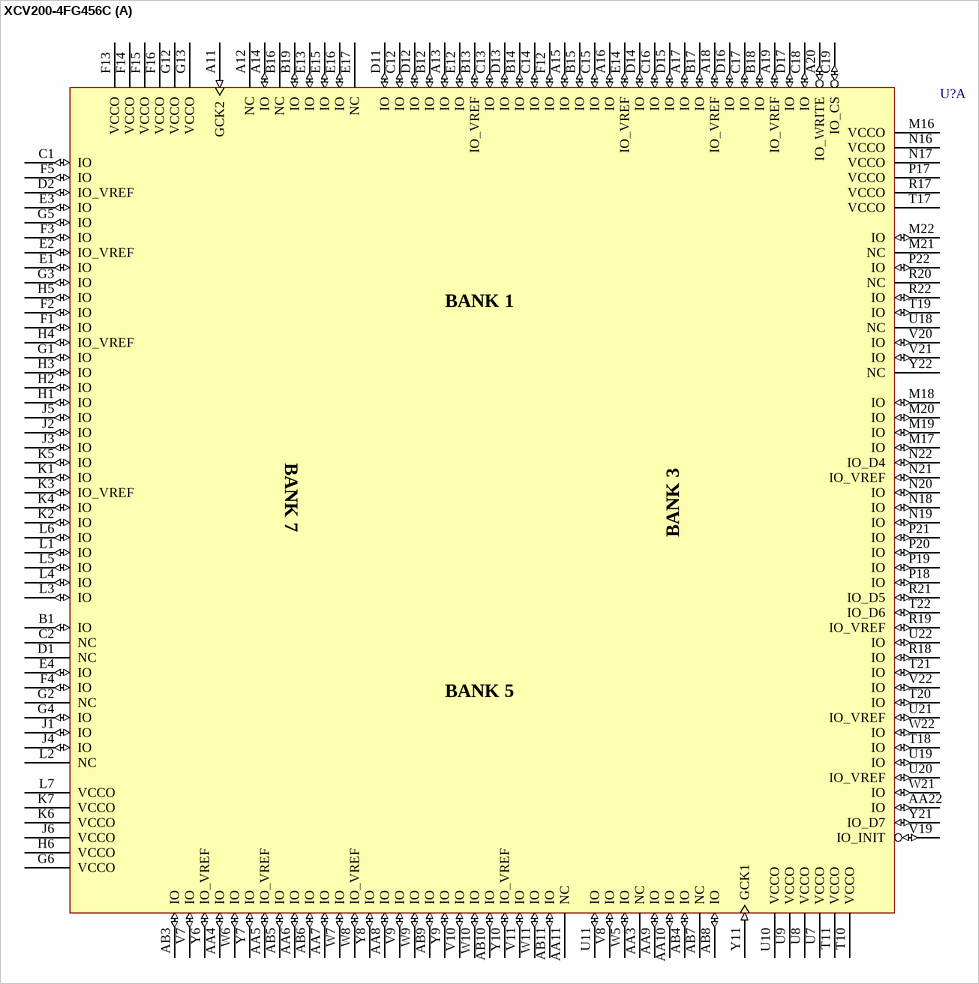
[diagram p94: symbol XCV200-4FG456C]

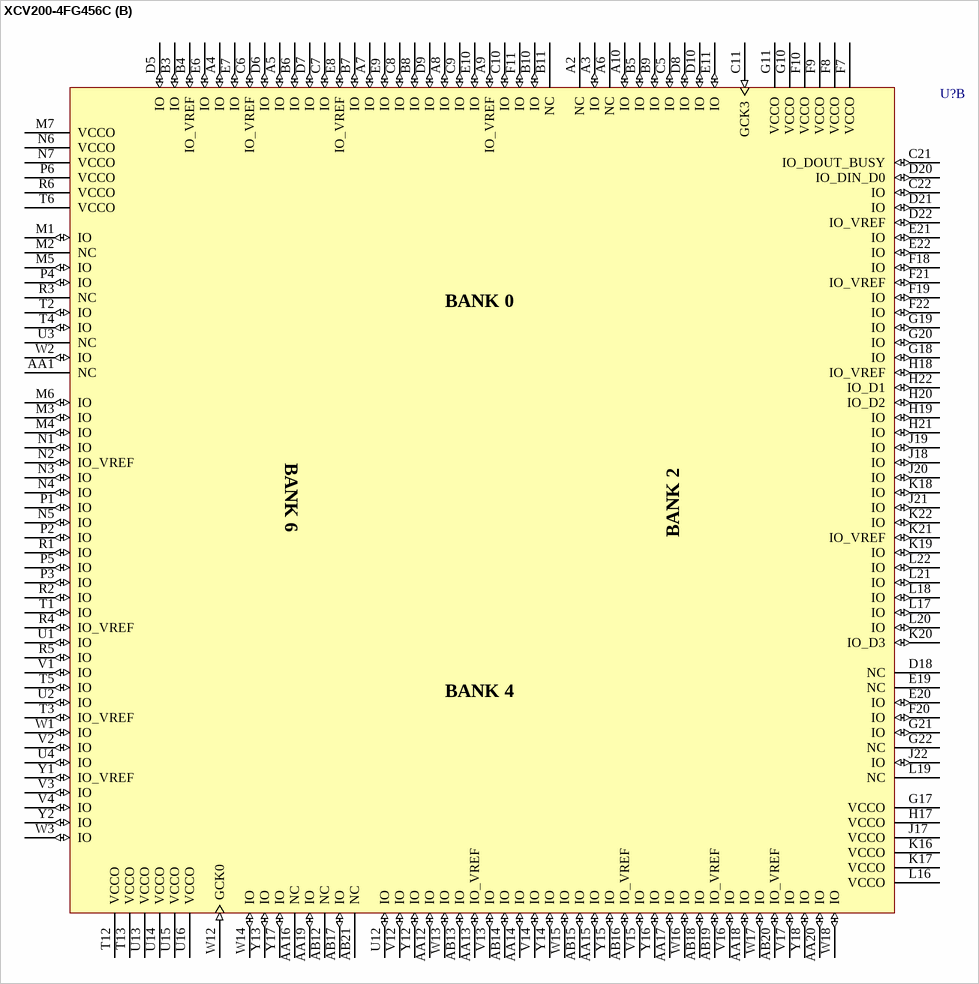
[diagram p95: symbol XCV200-4FG456C]

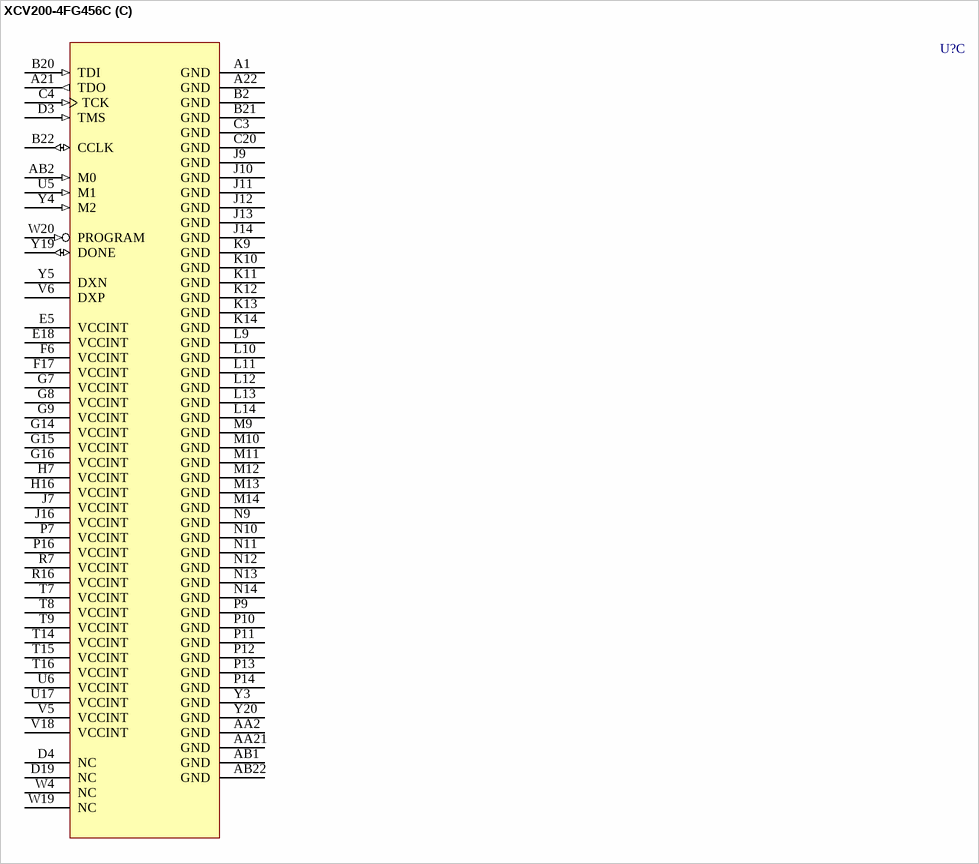
[diagram p96: symbol XCV200-4FG456C]

## XCV200-4FG456C
designator U?
Virtex 2.5V FPGA, 456-Ball FBGA, Commercial Grade; PackageDocument: ver1.1, Apr-2001; Note: Solder pads are defined by the copper, i.e. non-soldermask defined (NSMD); Published: 19-Sep-2001; LatestRevisionDate: 17-Jul-2002; LatestRevisionNote: Re-released for DXP Platform.; DatasheetDocument: Dec-2002; PackageReference: FG456; Publisher: Altium Limited; Code_JEDEC: MO-151-AAJ-1
footprint FG456 (456-Ball Fine Pitch Ball Grid Array (FG456))
3D model XCV200-FG456 (456-Ball Fine Pitch Ball Grid Array (FG456))
signal-integrity model XCV200_FG456 (Virtex)
part A pins: A11 GCK2 (in), A12 NC, A13 IO (io), A14 IO (io), A15 IO (io), A16 IO (io), A17 IO (io), A18 IO_VREF (io), A19 IO_VREF (io), A20 IO_WRITE (io), AA3 NC, AA4 IO (io), AA5 IO_VREF (io), AA6 IO (io), AA7 IO (io), AA8 IO (io), AA9 IO (io), AA10 IO (io), AA11 NC, AA22 IO (io), AB3 IO (io), AB4 IO (io), AB5 IO (io), AB6 IO (io), AB7 NC, AB8 IO (io), AB9 IO (io), AB10 IO (io), AB11 IO (io), B1 IO (io), B12 IO (io), B13 IO_VREF (io), B14 IO (io), B15 IO (io), B16 NC, B17 IO (io), B18 IO (io), B19 IO (io), C1 IO (io), C2 NC, C12 IO (io), C13 IO (io), C14 IO (io), C15 IO (io), C16 IO (io), C17 IO (io), C18 IO (io), C19 IO_CS (io), D1 NC, D2 IO_VREF (io), D11 IO (io), D12 IO (io), D13 IO (io), D14 IO (io), D15 IO (io), D16 IO (io), D17 IO (io), E1 IO (io), E2 IO_VREF (io), E3 IO (io), E4 IO (io), E12 IO (io), E13 IO (io), E14 IO_VREF (io), E15 IO (io), E16 IO (io), E17 NC, F1 IO (io), F2 IO (io), F3 IO (io), F4 IO (io), F5 IO (io), F12 IO (io), F13 VCCO (power), F14 VCCO (power), F15 VCCO (power), F16 VCCO (power), G1 IO (io), G2 NC, G3 IO (io), G4 IO (io), G5 IO (io), G6 VCCO (power), G12 VCCO (power), G13 VCCO (power), H1 IO (io), H2 IO (io), H3 IO (io), H4 IO_VREF (io), H5 IO (io), H6 VCCO (power), J1 IO (io), J2 IO (io), J3 IO (io), J4 IO (io), J5 IO (io), J6 VCCO (power), K1 IO (io), K2 IO (io), K3 IO_VREF (io), K4 IO (io), K5 IO (io), K6 VCCO (power), K7 VCCO (power), L1 IO (io), L2 NC, L3 IO (io), L4 IO (io), L5 IO (io), L6 IO (io), L7 VCCO (power), M16 VCCO (power), M17 IO (io), M18 IO (io), M19 IO (io), M20 IO (io), M21 NC, M22 IO (io), N16 VCCO (power), N17 VCCO (power), N18 IO (io), N19 IO (io), N20 IO (io), N21 IO_VREF (io), N22 IO_D4 (io), P17 VCCO (power), P18 IO (io), P19 IO (io), P20 IO (io), P21 IO (io), P22 IO (io), R17 VCCO (power), R18 IO (io), R19 IO_VREF (io), R20 NC, R21 IO_D5 (io), R22 IO (io), T10 VCCO (power), T11 VCCO (power), T17 VCCO (power), T18 IO (io), T19 IO (io), T20 IO (io), T21 IO (io), T22 IO_D6 (io), U7 VCCO (power), U8 VCCO (power), U9 VCCO (power), U10 VCCO (power), U11 IO (io), U18 NC, U19 IO (io), U20 IO_VREF (io), U21 IO_VREF (io), U22 IO (io), V7 IO (io), V8 IO (io), V9 IO (io), V10 IO (io), V11 IO (io), V19 IO_INIT (io), V20 IO (io), V21 IO (io), V22 IO (io), W5 IO (io), W6 IO (io), W7 IO (io), W8 IO_VREF (io), W9 IO (io), W10 IO (io), W11 IO (io), W21 IO (io), W22 IO (io), Y6 IO_VREF (io), Y7 IO (io), Y8 IO (io), Y9 IO (io), Y10 IO_VREF (io), Y11 GCK1 (in), Y21 IO_D7 (io), Y22 NC
part B pins: A2 NC, A3 IO (io), A4 IO (io), A5 IO (io), A6 NC, A7 IO (io), A8 IO (io), A9 IO_VREF (io), A10 IO (io), AA1 NC, AA12 IO (io), AA13 IO_VREF (io), AA14 IO (io), AA15 IO (io), AA16 NC, AA17 IO (io), AA18 IO (io), AA19 IO (io), AA20 IO (io), AB12 NC, AB13 IO (io), AB14 IO (io), AB15 IO (io), AB16 IO_VREF (io), AB17 IO (io), AB18 IO (io), AB19 IO_VREF (io), AB20 IO_VREF (io), AB21 NC, B3 IO (io), B4 IO_VREF (io), B5 IO (io), B6 IO (io), B7 IO (io), B8 IO (io), B9 IO (io), B10 IO (io), B11 NC, C5 IO (io), C6 IO_VREF (io), C7 IO (io), C8 IO (io), C9 IO (io), C10 IO (io), C11 GCK3 (in), C21 IO_DOUT_BUSY (io), C22 IO (io), D5 IO (io), D6 IO (io), D7 IO (io), D8 IO (io), D9 IO (io), D10 IO (io), D18 NC, D20 IO_DIN_D0 (io), D21 IO (io), D22 IO_VREF (io), E6 IO (io), E7 IO (io), E8 IO_VREF (io), E9 IO (io), E10 IO (io), E11 IO (io), E19 NC, E20 IO (io), E21 IO (io), E22 IO (io), F7 VCCO (power), F8 VCCO (power), F9 VCCO (power), F10 VCCO (power), F11 IO (io), F18 IO (io), F19 IO (io), F20 IO (io), F21 IO_VREF (io), F22 IO (io), G10 VCCO (power), G11 VCCO (power), G17 VCCO (power), G18 IO (io), G19 IO (io), G20 IO (io), G21 IO (io), G22 NC, H17 VCCO (power), H18 IO_VREF (io), H19 IO (io), H20 IO_D2 (io), H21 IO (io), H22 IO_D1 (io), J17 VCCO (power), J18 IO (io), J19 IO (io), J20 IO (io), J21 IO (io), J22 IO (io), K16 VCCO (power), K17 VCCO (power), K18 IO (io), K19 IO (io), K20 IO_D3 (io), K21 IO_VREF (io), K22 IO (io), L16 VCCO (power), L17 IO (io), L18 IO (io), L19 NC, L20 IO (io), L21 IO (io), L22 IO (io), M1 IO (io), M2 NC, M3 IO (io), M4 IO (io), M5 IO (io), M6 IO (io), M7 VCCO (power), N1 IO (io), N2 IO_VREF (io), N3 IO (io), N4 IO (io), N5 IO (io), N6 VCCO (power), N7 VCCO (power), P1 IO (io), P2 IO (io), P3 IO (io), P4 IO (io), P5 IO (io), P6 VCCO (power), R1 IO (io), R2 IO (io), R3 NC, R4 IO_VREF (io), R5 IO (io), R6 VCCO (power), T1 IO (io), T2 IO (io), T3 IO_VREF (io), T4 IO (io), T5 IO (io), T6 VCCO (power), T12 VCCO (power), T13 VCCO (power), U1 IO (io), U2 IO (io), U3 NC, U4 IO (io), U12 IO (io), U13 VCCO (power), U14 VCCO (power), U15 VCCO (power), U16 VCCO (power), V1 IO (io), V2 IO (io), V3 IO (io), V4 IO (io), V12 IO (io), V13 IO (io), V14 IO (io), V15 IO (io), V16 IO (io), V17 IO (io), W1 IO (io), W2 IO (io), W3 IO (io), W12 GCK0 (in), W13 IO (io), W14 IO (io), W15 IO (io), W16 IO (io), W17 IO (io), W18 IO (io), Y1 IO_VREF (io), Y2 IO (io), Y12 IO (io), Y13 IO (io), Y14 IO (io), Y15 IO (io), Y16 IO (io), Y17 IO (io), Y18 IO (io)
part C pins: A1 GND (power), A21 TDO (out), A22 GND (power), AA2 GND (power), AA21 GND (power), AB1 GND (power), AB2 M0 (in), AB22 GND (power), B2 GND (power), B20 TDI (in), B21 GND (power), B22 CCLK (io), C3 GND (power), C4 TCK (in), C20 GND (power), D3 TMS (in), D4 NC, D19 NC, E5 VCCINT (power), E18 VCCINT (power), F6 VCCINT (power), F17 VCCINT (power), G7 VCCINT (power), G8 VCCINT (power), G9 VCCINT (power), G14 VCCINT (power), G15 VCCINT (power), G16 VCCINT (power), H7 VCCINT (power), H16 VCCINT (power), J7 VCCINT (power), J9 GND (power), J10 GND (power), J11 GND (power), J12 GND (power), J13 GND (power), J14 GND (power), J16 VCCINT (power), K9 GND (power), K10 GND (power), K11 GND (power), K12 GND (power), K13 GND (power), K14 GND (power), L9 GND (power), L10 GND (power), L11 GND (power), L12 GND (power), L13 GND (power), L14 GND (power), M9 GND (power), M10 GND (power), M11 GND (power), M12 GND (power), M13 GND (power), M14 GND (power), N9 GND (power), N10 GND (power), N11 GND (power), N12 GND (power), N13 GND (power), N14 GND (power), P7 VCCINT (power), P9 GND (power), P10 GND (power), P11 GND (power), P12 GND (power), P13 GND (power), P14 GND (power), P16 VCCINT (power), R7 VCCINT (power), R16 VCCINT (power), T7 VCCINT (power), T8 VCCINT (power), T9 VCCINT (power), T14 VCCINT (power), T15 VCCINT (power), T16 VCCINT (power), U5 M1 (in), U6 VCCINT (power), U17 VCCINT (power), V5 VCCINT (power), V6 DXP, V18 VCCINT (power), W4 NC, W19 NC, W20 PROGRAM (in), Y3 GND (power), Y4 M2 (in), Y5 DXN, Y19 DONE (io), Y20 GND (power)
part A text: BANK 1; BANK 7; BANK 3; BANK 5
part B text: BANK 0; BANK 6; BANK 2; BANK 4

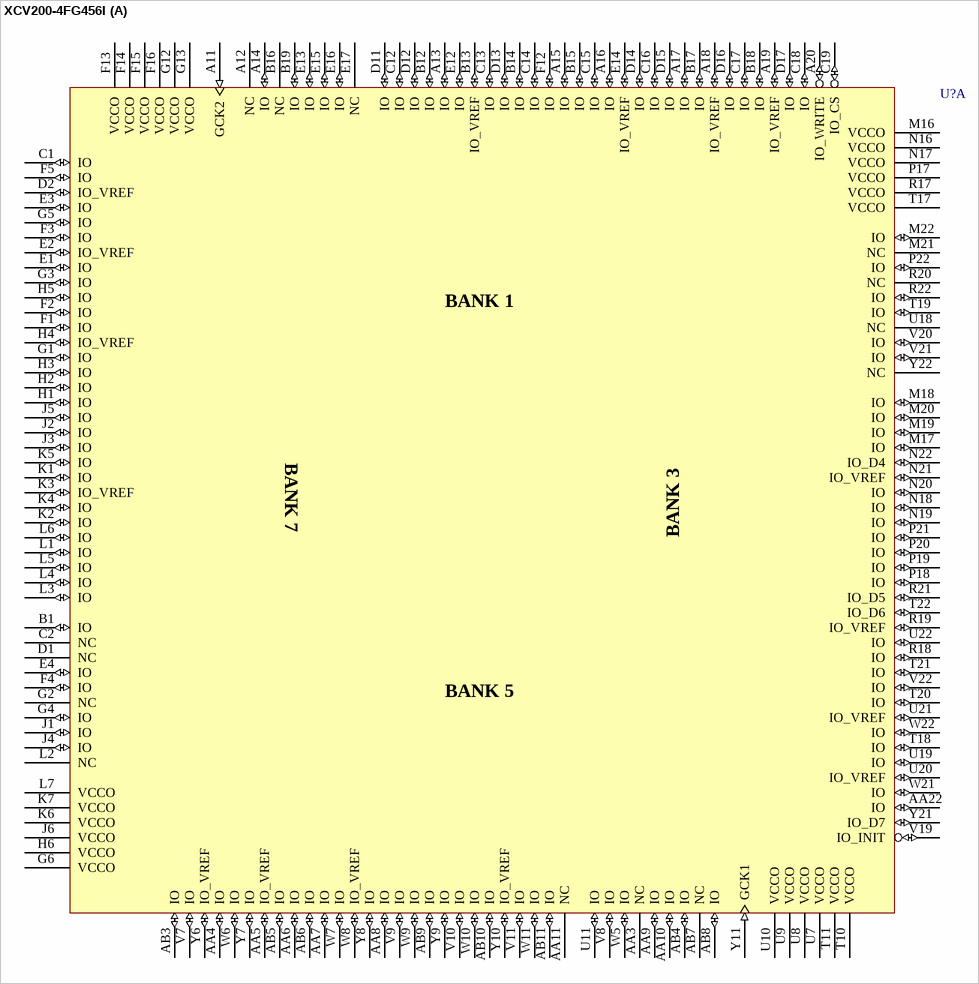
[diagram p97: symbol XCV200-4FG456I]

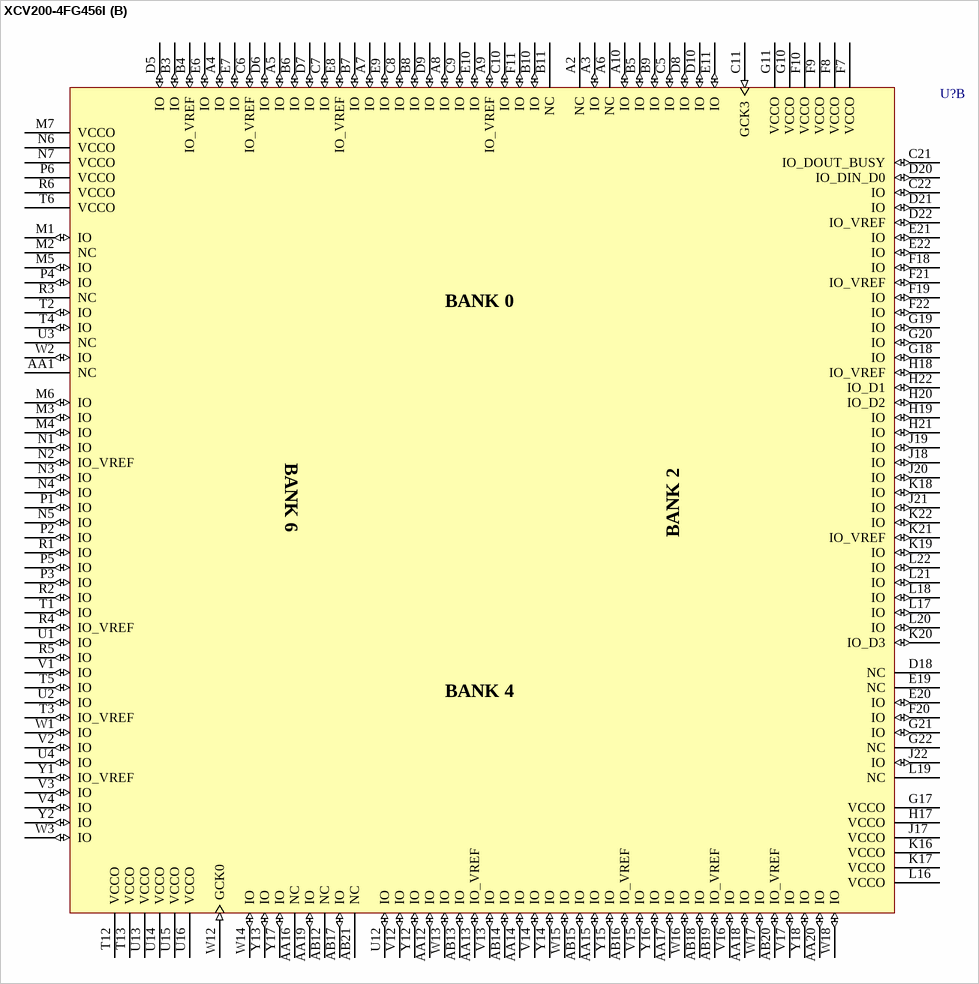
[diagram p98: symbol XCV200-4FG456I]

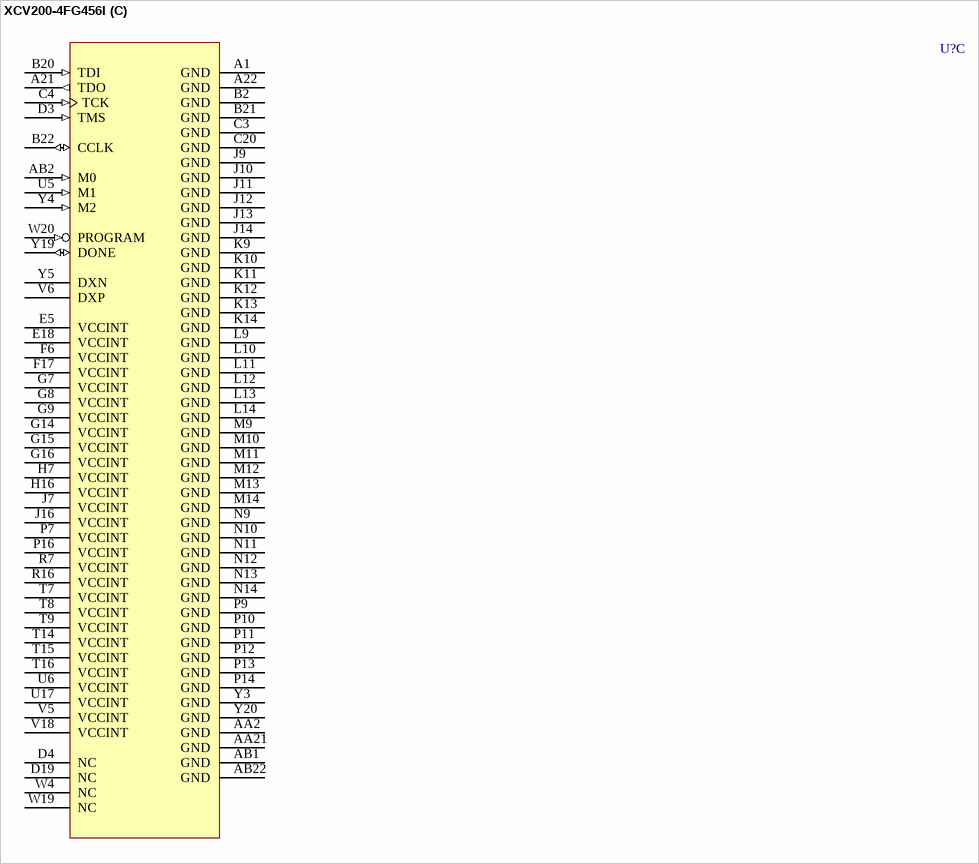
[diagram p99: symbol XCV200-4FG456I]

## XCV200-4FG456I
designator U?
Virtex 2.5V FPGA, 456-Ball FBGA, Industrial Grade; PackageDocument: ver1.1, Apr-2001; Note: Solder pads are defined by the copper, i.e. non-soldermask defined (NSMD); Published: 19-Sep-2001; LatestRevisionDate: 17-Jul-2002; LatestRevisionNote: Re-released for DXP Platform.; DatasheetDocument: Dec-2002; PackageReference: FG456; Publisher: Altium Limited; Code_JEDEC: MO-151-AAJ-1
footprint FG456 (456-Ball Fine Pitch Ball Grid Array (FG456))
3D model XCV200-FG456 (456-Ball Fine Pitch Ball Grid Array (FG456))
signal-integrity model XCV200_FG456 (Virtex)
part A pins: A11 GCK2 (in), A12 NC, A13 IO (io), A14 IO (io), A15 IO (io), A16 IO (io), A17 IO (io), A18 IO_VREF (io), A19 IO_VREF (io), A20 IO_WRITE (io), AA3 NC, AA4 IO (io), AA5 IO_VREF (io), AA6 IO (io), AA7 IO (io), AA8 IO (io), AA9 IO (io), AA10 IO (io), AA11 NC, AA22 IO (io), AB3 IO (io), AB4 IO (io), AB5 IO (io), AB6 IO (io), AB7 NC, AB8 IO (io), AB9 IO (io), AB10 IO (io), AB11 IO (io), B1 IO (io), B12 IO (io), B13 IO_VREF (io), B14 IO (io), B15 IO (io), B16 NC, B17 IO (io), B18 IO (io), B19 IO (io), C1 IO (io), C2 NC, C12 IO (io), C13 IO (io), C14 IO (io), C15 IO (io), C16 IO (io), C17 IO (io), C18 IO (io), C19 IO_CS (io), D1 NC, D2 IO_VREF (io), D11 IO (io), D12 IO (io), D13 IO (io), D14 IO (io), D15 IO (io), D16 IO (io), D17 IO (io), E1 IO (io), E2 IO_VREF (io), E3 IO (io), E4 IO (io), E12 IO (io), E13 IO (io), E14 IO_VREF (io), E15 IO (io), E16 IO (io), E17 NC, F1 IO (io), F2 IO (io), F3 IO (io), F4 IO (io), F5 IO (io), F12 IO (io), F13 VCCO (power), F14 VCCO (power), F15 VCCO (power), F16 VCCO (power), G1 IO (io), G2 NC, G3 IO (io), G4 IO (io), G5 IO (io), G6 VCCO (power), G12 VCCO (power), G13 VCCO (power), H1 IO (io), H2 IO (io), H3 IO (io), H4 IO_VREF (io), H5 IO (io), H6 VCCO (power), J1 IO (io), J2 IO (io), J3 IO (io), J4 IO (io), J5 IO (io), J6 VCCO (power), K1 IO (io), K2 IO (io), K3 IO_VREF (io), K4 IO (io), K5 IO (io), K6 VCCO (power), K7 VCCO (power), L1 IO (io), L2 NC, L3 IO (io), L4 IO (io), L5 IO (io), L6 IO (io), L7 VCCO (power), M16 VCCO (power), M17 IO (io), M18 IO (io), M19 IO (io), M20 IO (io), M21 NC, M22 IO (io), N16 VCCO (power), N17 VCCO (power), N18 IO (io), N19 IO (io), N20 IO (io), N21 IO_VREF (io), N22 IO_D4 (io), P17 VCCO (power), P18 IO (io), P19 IO (io), P20 IO (io), P21 IO (io), P22 IO (io), R17 VCCO (power), R18 IO (io), R19 IO_VREF (io), R20 NC, R21 IO_D5 (io), R22 IO (io), T10 VCCO (power), T11 VCCO (power), T17 VCCO (power), T18 IO (io), T19 IO (io), T20 IO (io), T21 IO (io), T22 IO_D6 (io), U7 VCCO (power), U8 VCCO (power), U9 VCCO (power), U10 VCCO (power), U11 IO (io), U18 NC, U19 IO (io), U20 IO_VREF (io), U21 IO_VREF (io), U22 IO (io), V7 IO (io), V8 IO (io), V9 IO (io), V10 IO (io), V11 IO (io), V19 IO_INIT (io), V20 IO (io), V21 IO (io), V22 IO (io), W5 IO (io), W6 IO (io), W7 IO (io), W8 IO_VREF (io), W9 IO (io), W10 IO (io), W11 IO (io), W21 IO (io), W22 IO (io), Y6 IO_VREF (io), Y7 IO (io), Y8 IO (io), Y9 IO (io), Y10 IO_VREF (io), Y11 GCK1 (in), Y21 IO_D7 (io), Y22 NC
part B pins: A2 NC, A3 IO (io), A4 IO (io), A5 IO (io), A6 NC, A7 IO (io), A8 IO (io), A9 IO_VREF (io), A10 IO (io), AA1 NC, AA12 IO (io), AA13 IO_VREF (io), AA14 IO (io), AA15 IO (io), AA16 NC, AA17 IO (io), AA18 IO (io), AA19 IO (io), AA20 IO (io), AB12 NC, AB13 IO (io), AB14 IO (io), AB15 IO (io), AB16 IO_VREF (io), AB17 IO (io), AB18 IO (io), AB19 IO_VREF (io), AB20 IO_VREF (io), AB21 NC, B3 IO (io), B4 IO_VREF (io), B5 IO (io), B6 IO (io), B7 IO (io), B8 IO (io), B9 IO (io), B10 IO (io), B11 NC, C5 IO (io), C6 IO_VREF (io), C7 IO (io), C8 IO (io), C9 IO (io), C10 IO (io), C11 GCK3 (in), C21 IO_DOUT_BUSY (io), C22 IO (io), D5 IO (io), D6 IO (io), D7 IO (io), D8 IO (io), D9 IO (io), D10 IO (io), D18 NC, D20 IO_DIN_D0 (io), D21 IO (io), D22 IO_VREF (io), E6 IO (io), E7 IO (io), E8 IO_VREF (io), E9 IO (io), E10 IO (io), E11 IO (io), E19 NC, E20 IO (io), E21 IO (io), E22 IO (io), F7 VCCO (power), F8 VCCO (power), F9 VCCO (power), F10 VCCO (power), F11 IO (io), F18 IO (io), F19 IO (io), F20 IO (io), F21 IO_VREF (io), F22 IO (io), G10 VCCO (power), G11 VCCO (power), G17 VCCO (power), G18 IO (io), G19 IO (io), G20 IO (io), G21 IO (io), G22 NC, H17 VCCO (power), H18 IO_VREF (io), H19 IO (io), H20 IO_D2 (io), H21 IO (io), H22 IO_D1 (io), J17 VCCO (power), J18 IO (io), J19 IO (io), J20 IO (io), J21 IO (io), J22 IO (io), K16 VCCO (power), K17 VCCO (power), K18 IO (io), K19 IO (io), K20 IO_D3 (io), K21 IO_VREF (io), K22 IO (io), L16 VCCO (power), L17 IO (io), L18 IO (io), L19 NC, L20 IO (io), L21 IO (io), L22 IO (io), M1 IO (io), M2 NC, M3 IO (io), M4 IO (io), M5 IO (io), M6 IO (io), M7 VCCO (power), N1 IO (io), N2 IO_VREF (io), N3 IO (io), N4 IO (io), N5 IO (io), N6 VCCO (power), N7 VCCO (power), P1 IO (io), P2 IO (io), P3 IO (io), P4 IO (io), P5 IO (io), P6 VCCO (power), R1 IO (io), R2 IO (io), R3 NC, R4 IO_VREF (io), R5 IO (io), R6 VCCO (power), T1 IO (io), T2 IO (io), T3 IO_VREF (io), T4 IO (io), T5 IO (io), T6 VCCO (power), T12 VCCO (power), T13 VCCO (power), U1 IO (io), U2 IO (io), U3 NC, U4 IO (io), U12 IO (io), U13 VCCO (power), U14 VCCO (power), U15 VCCO (power), U16 VCCO (power), V1 IO (io), V2 IO (io), V3 IO (io), V4 IO (io), V12 IO (io), V13 IO (io), V14 IO (io), V15 IO (io), V16 IO (io), V17 IO (io), W1 IO (io), W2 IO (io), W3 IO (io), W12 GCK0 (in), W13 IO (io), W14 IO (io), W15 IO (io), W16 IO (io), W17 IO (io), W18 IO (io), Y1 IO_VREF (io), Y2 IO (io), Y12 IO (io), Y13 IO (io), Y14 IO (io), Y15 IO (io), Y16 IO (io), Y17 IO (io), Y18 IO (io)
part C pins: A1 GND (power), A21 TDO (out), A22 GND (power), AA2 GND (power), AA21 GND (power), AB1 GND (power), AB2 M0 (in), AB22 GND (power), B2 GND (power), B20 TDI (in), B21 GND (power), B22 CCLK (io), C3 GND (power), C4 TCK (in), C20 GND (power), D3 TMS (in), D4 NC, D19 NC, E5 VCCINT (power), E18 VCCINT (power), F6 VCCINT (power), F17 VCCINT (power), G7 VCCINT (power), G8 VCCINT (power), G9 VCCINT (power), G14 VCCINT (power), G15 VCCINT (power), G16 VCCINT (power), H7 VCCINT (power), H16 VCCINT (power), J7 VCCINT (power), J9 GND (power), J10 GND (power), J11 GND (power), J12 GND (power), J13 GND (power), J14 GND (power), J16 VCCINT (power), K9 GND (power), K10 GND (power), K11 GND (power), K12 GND (power), K13 GND (power), K14 GND (power), L9 GND (power), L10 GND (power), L11 GND (power), L12 GND (power), L13 GND (power), L14 GND (power), M9 GND (power), M10 GND (power), M11 GND (power), M12 GND (power), M13 GND (power), M14 GND (power), N9 GND (power), N10 GND (power), N11 GND (power), N12 GND (power), N13 GND (power), N14 GND (power), P7 VCCINT (power), P9 GND (power), P10 GND (power), P11 GND (power), P12 GND (power), P13 GND (power), P14 GND (power), P16 VCCINT (power), R7 VCCINT (power), R16 VCCINT (power), T7 VCCINT (power), T8 VCCINT (power), T9 VCCINT (power), T14 VCCINT (power), T15 VCCINT (power), T16 VCCINT (power), U5 M1 (in), U6 VCCINT (power), U17 VCCINT (power), V5 VCCINT (power), V6 DXP, V18 VCCINT (power), W4 NC, W19 NC, W20 PROGRAM (in), Y3 GND (power), Y4 M2 (in), Y5 DXN, Y19 DONE (io), Y20 GND (power)
part A text: BANK 1; BANK 7; BANK 3; BANK 5
part B text: BANK 0; BANK 6; BANK 2; BANK 4

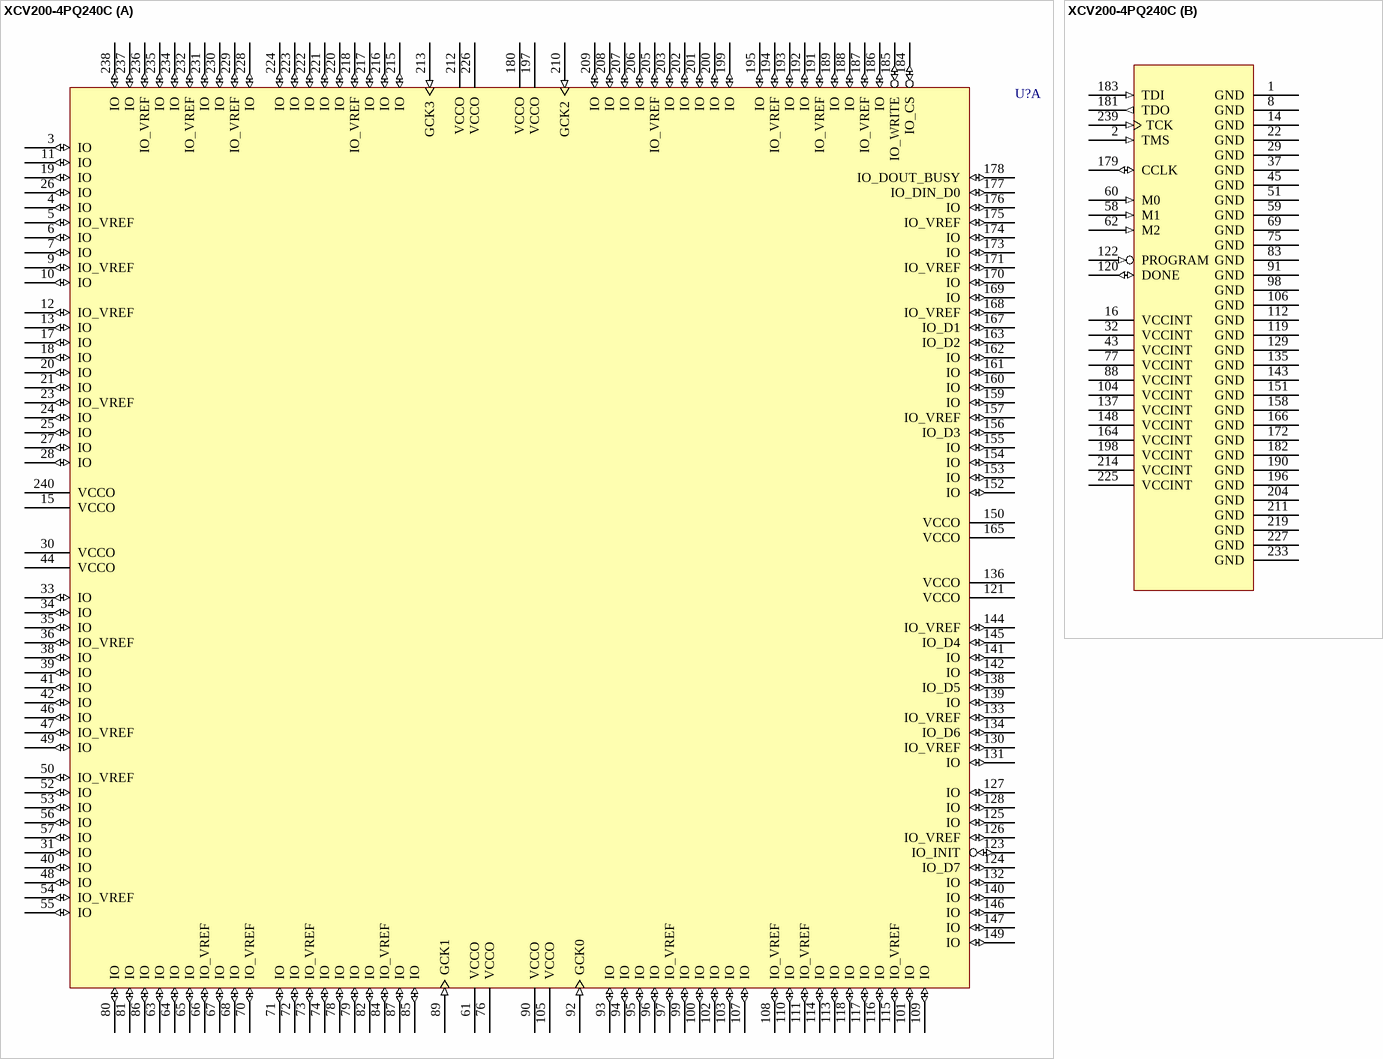
[diagram p100: symbol XCV200-4PQ240C]

## XCV200-4PQ240C
designator U?
Virtex 2.5V FPGA, 240-Pin PQFP, Commercial Grade; PackageDocument: ver1.1, Oct-2002; Published: 19-Sep-2001; LatestRevisionDate: 17-Jul-2002; LatestRevisionNote: Re-released for DXP Platform.; DatasheetDocument: Dec-2002; PackageReference: PQ240; Publisher: Altium Limited; Code_JEDEC: MO-143-GA
footprint PQ240 (240-Pin Plastic Quad Flat Pack (PQ240))
3D model XCV200-PQ240 (240-Pin Plastic Quad Flat Pack (PQ240))
signal-integrity model XCV200_PQ240 (Virtex)
part A pins: 3 IO (io), 4 IO (io), 5 IO_VREF (io), 6 IO (io), 7 IO (io), 9 IO_VREF (io), 10 IO (io), 11 IO (io), 12 IO_VREF (io), 13 IO (io), 15 VCCO (power), 17 IO (io), 18 IO (io), 19 IO (io), 20 IO (io), 21 IO (io), 23 IO_VREF (io), 24 IO (io), 25 IO (io), 26 IO (io), 27 IO (io), 28 IO (io), 30 VCCO (power), 31 IO (io), 33 IO (io), 34 IO (io), 35 IO (io), 36 IO_VREF (io), 38 IO (io), 39 IO (io), 40 IO (io), 41 IO (io), 42 IO (io), 44 VCCO (power), 46 IO (io), 47 IO_VREF (io), 48 IO (io), 49 IO (io), 50 IO_VREF (io), 52 IO (io), 53 IO (io), 54 IO_VREF (io), 55 IO (io), 56 IO (io), 57 IO (io), 61 VCCO (power), 63 IO (io), 64 IO (io), 65 IO (io), 66 IO_VREF (io), 67 IO (io), 68 IO (io), 70 IO_VREF (io), 71 IO (io), 72 IO (io), 73 IO_VREF (io), 74 IO (io), 76 VCCO (power), 78 IO (io), 79 IO (io), 80 IO (io), 81 IO (io), 82 IO (io), 84 IO_VREF (io), 85 IO (io), 86 IO (io), 87 IO (io), 89 GCK1 (in), 90 VCCO (power), 92 GCK0 (in), 93 IO (io), 94 IO (io), 95 IO (io), 96 IO (io), 97 IO_VREF (io), 99 IO (io), 100 IO (io), 101 IO (io), 102 IO (io), 103 IO (io), 105 VCCO (power), 107 IO (io), 108 IO_VREF (io), 109 IO (io), 110 IO (io), 111 IO_VREF (io), 113 IO (io), 114 IO (io), 115 IO_VREF (io), 116 IO (io), 117 IO (io), 118 IO (io), 121 VCCO (power), 123 IO_INIT (io), 124 IO_D7 (io), 125 IO (io), 126 IO_VREF (io), 127 IO (io), 128 IO (io), 130 IO_VREF (io), 131 IO (io), 132 IO (io), 133 IO_VREF (io), 134 IO_D6 (io), 136 VCCO (power), 138 IO_D5 (io), 139 IO (io), 140 IO (io), 141 IO (io), 142 IO (io), 144 IO_VREF (io), 145 IO_D4 (io), 146 IO (io), 147 IO (io), 149 IO (io), 150 VCCO (power), 152 IO (io), 153 IO (io), 154 IO (io), 155 IO (io), 156 IO_D3 (io), 157 IO_VREF (io), 159 IO (io), 160 IO (io), 161 IO (io), 162 IO (io), 163 IO_D2 (io), 165 VCCO (power), 167 IO_D1 (io), 168 IO_VREF (io), 169 IO (io), 170 IO (io), 171 IO_VREF (io), 173 IO (io), 174 IO (io), 175 IO_VREF (io), 176 IO (io), 177 IO_DIN_D0 (io), 178 IO_DOUT_BUSY (io), 180 VCCO (power), 184 IO_CS (io), 185 IO_WRITE (io), 186 IO (io), 187 IO_VREF (io), 188 IO (io), 189 IO (io), 191 IO_VREF (io), 192 IO (io), 193 IO (io), 194 IO_VREF (io), 195 IO (io), 197 VCCO (power), 199 IO (io), 200 IO (io), 201 IO (io), 202 IO (io), 203 IO (io), 205 IO_VREF (io), 206 IO (io), 207 IO (io), 208 IO (io), 209 IO (io), 210 GCK2 (in), 212 VCCO (power), 213 GCK3 (in), 215 IO (io), 216 IO (io), 217 IO (io), 218 IO_VREF (io), 220 IO (io), 221 IO (io), 222 IO (io), 223 IO (io), 224 IO (io), 226 VCCO (power), 228 IO (io), 229 IO_VREF (io), 230 IO (io), 231 IO (io), 232 IO_VREF (io), 234 IO (io), 235 IO (io), 236 IO_VREF (io), 237 IO (io), 238 IO (io), 240 VCCO (power)
part B pins: 1 GND (power), 2 TMS (in), 8 GND (power), 14 GND (power), 16 VCCINT (power), 22 GND (power), 29 GND (power), 32 VCCINT (power), 37 GND (power), 43 VCCINT (power), 45 GND (power), 51 GND (power), 58 M1 (in), 59 GND (power), 60 M0 (in), 62 M2 (in), 69 GND (power), 75 GND (power), 77 VCCINT (power), 83 GND (power), 88 VCCINT (power), 91 GND (power), 98 GND (power), 104 VCCINT (power), 106 GND (power), 112 GND (power), 119 GND (power), 120 DONE (io), 122 PROGRAM (in), 129 GND (power), 135 GND (power), 137 VCCINT (power), 143 GND (power), 148 VCCINT (power), 151 GND (power), 158 GND (power), 164 VCCINT (power), 166 GND (power), 172 GND (power), 179 CCLK (io), 181 TDO (out), 182 GND (power), 183 TDI (in), 190 GND (power), 196 GND (power), 198 VCCINT (power), 204 GND (power), 211 GND (power), 214 VCCINT (power), 219 GND (power), 225 VCCINT (power), 227 GND (power), 233 GND (power), 239 TCK (in)

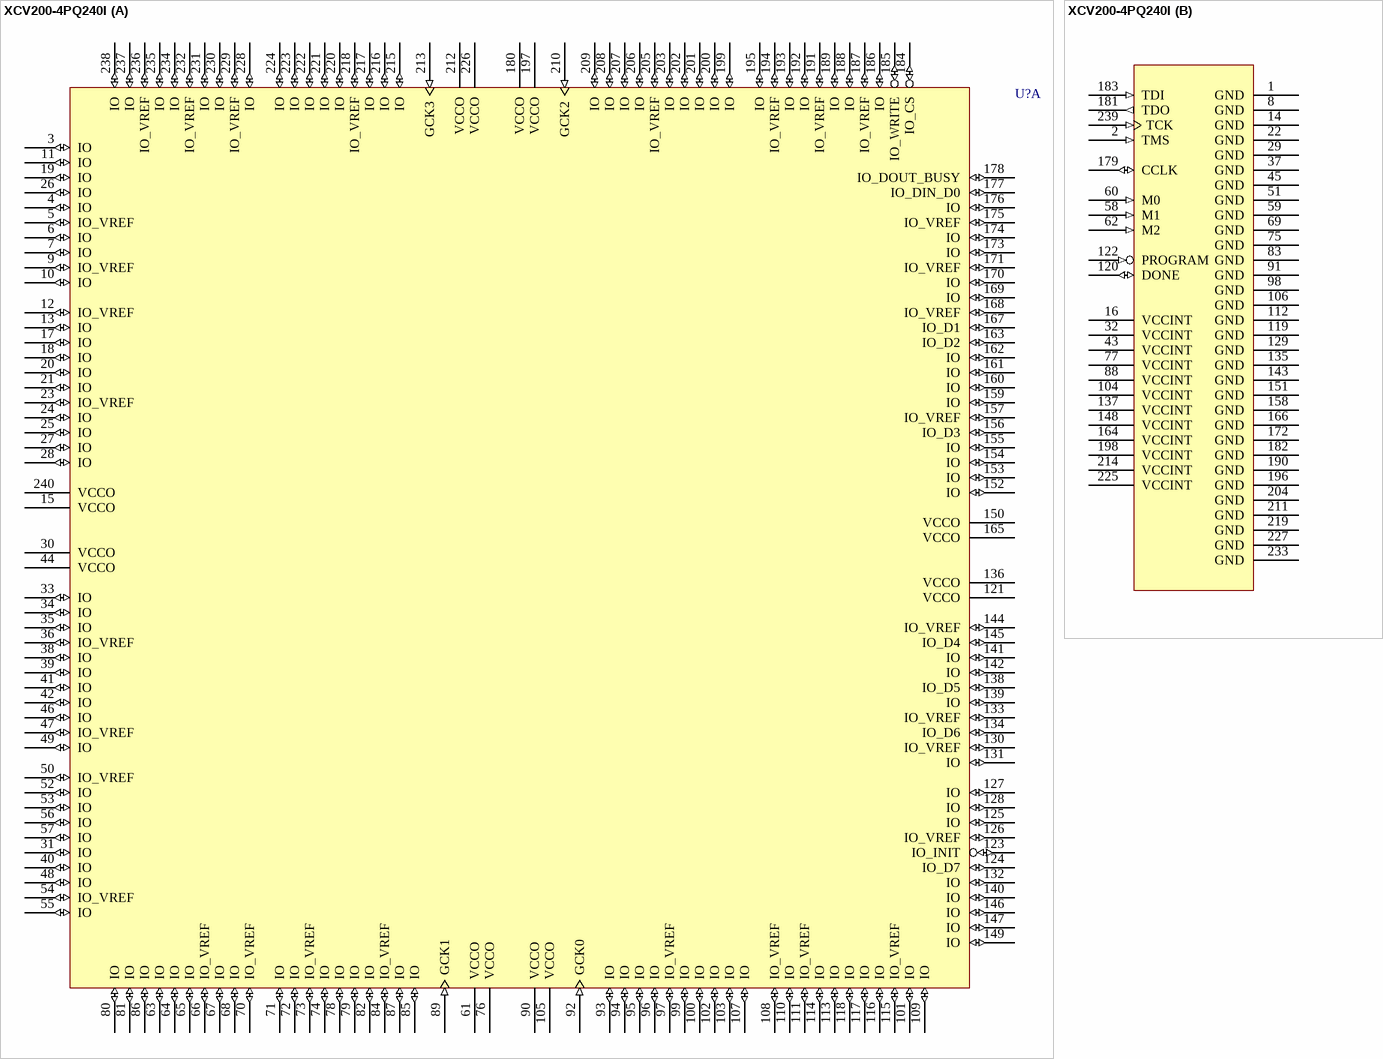
[diagram p101: symbol XCV200-4PQ240I]

## XCV200-4PQ240I
designator U?
Virtex 2.5V FPGA, 240-Pin PQFP, Industrial Grade; PackageDocument: ver1.1, Oct-2002; Published: 19-Sep-2001; LatestRevisionDate: 17-Jul-2002; LatestRevisionNote: Re-released for DXP Platform.; DatasheetDocument: Dec-2002; PackageReference: PQ240; Publisher: Altium Limited; Code_JEDEC: MO-143-GA
footprint PQ240 (240-Pin Plastic Quad Flat Pack (PQ240))
3D model XCV200-PQ240 (240-Pin Plastic Quad Flat Pack (PQ240))
signal-integrity model XCV200_PQ240 (Virtex)
part A pins: 3 IO (io), 4 IO (io), 5 IO_VREF (io), 6 IO (io), 7 IO (io), 9 IO_VREF (io), 10 IO (io), 11 IO (io), 12 IO_VREF (io), 13 IO (io), 15 VCCO (power), 17 IO (io), 18 IO (io), 19 IO (io), 20 IO (io), 21 IO (io), 23 IO_VREF (io), 24 IO (io), 25 IO (io), 26 IO (io), 27 IO (io), 28 IO (io), 30 VCCO (power), 31 IO (io), 33 IO (io), 34 IO (io), 35 IO (io), 36 IO_VREF (io), 38 IO (io), 39 IO (io), 40 IO (io), 41 IO (io), 42 IO (io), 44 VCCO (power), 46 IO (io), 47 IO_VREF (io), 48 IO (io), 49 IO (io), 50 IO_VREF (io), 52 IO (io), 53 IO (io), 54 IO_VREF (io), 55 IO (io), 56 IO (io), 57 IO (io), 61 VCCO (power), 63 IO (io), 64 IO (io), 65 IO (io), 66 IO_VREF (io), 67 IO (io), 68 IO (io), 70 IO_VREF (io), 71 IO (io), 72 IO (io), 73 IO_VREF (io), 74 IO (io), 76 VCCO (power), 78 IO (io), 79 IO (io), 80 IO (io), 81 IO (io), 82 IO (io), 84 IO_VREF (io), 85 IO (io), 86 IO (io), 87 IO (io), 89 GCK1 (in), 90 VCCO (power), 92 GCK0 (in), 93 IO (io), 94 IO (io), 95 IO (io), 96 IO (io), 97 IO_VREF (io), 99 IO (io), 100 IO (io), 101 IO (io), 102 IO (io), 103 IO (io), 105 VCCO (power), 107 IO (io), 108 IO_VREF (io), 109 IO (io), 110 IO (io), 111 IO_VREF (io), 113 IO (io), 114 IO (io), 115 IO_VREF (io), 116 IO (io), 117 IO (io), 118 IO (io), 121 VCCO (power), 123 IO_INIT (io), 124 IO_D7 (io), 125 IO (io), 126 IO_VREF (io), 127 IO (io), 128 IO (io), 130 IO_VREF (io), 131 IO (io), 132 IO (io), 133 IO_VREF (io), 134 IO_D6 (io), 136 VCCO (power), 138 IO_D5 (io), 139 IO (io), 140 IO (io), 141 IO (io), 142 IO (io), 144 IO_VREF (io), 145 IO_D4 (io), 146 IO (io), 147 IO (io), 149 IO (io), 150 VCCO (power), 152 IO (io), 153 IO (io), 154 IO (io), 155 IO (io), 156 IO_D3 (io), 157 IO_VREF (io), 159 IO (io), 160 IO (io), 161 IO (io), 162 IO (io), 163 IO_D2 (io), 165 VCCO (power), 167 IO_D1 (io), 168 IO_VREF (io), 169 IO (io), 170 IO (io), 171 IO_VREF (io), 173 IO (io), 174 IO (io), 175 IO_VREF (io), 176 IO (io), 177 IO_DIN_D0 (io), 178 IO_DOUT_BUSY (io), 180 VCCO (power), 184 IO_CS (io), 185 IO_WRITE (io), 186 IO (io), 187 IO_VREF (io), 188 IO (io), 189 IO (io), 191 IO_VREF (io), 192 IO (io), 193 IO (io), 194 IO_VREF (io), 195 IO (io), 197 VCCO (power), 199 IO (io), 200 IO (io), 201 IO (io), 202 IO (io), 203 IO (io), 205 IO_VREF (io), 206 IO (io), 207 IO (io), 208 IO (io), 209 IO (io), 210 GCK2 (in), 212 VCCO (power), 213 GCK3 (in), 215 IO (io), 216 IO (io), 217 IO (io), 218 IO_VREF (io), 220 IO (io), 221 IO (io), 222 IO (io), 223 IO (io), 224 IO (io), 226 VCCO (power), 228 IO (io), 229 IO_VREF (io), 230 IO (io), 231 IO (io), 232 IO_VREF (io), 234 IO (io), 235 IO (io), 236 IO_VREF (io), 237 IO (io), 238 IO (io), 240 VCCO (power)
part B pins: 1 GND (power), 2 TMS (in), 8 GND (power), 14 GND (power), 16 VCCINT (power), 22 GND (power), 29 GND (power), 32 VCCINT (power), 37 GND (power), 43 VCCINT (power), 45 GND (power), 51 GND (power), 58 M1 (in), 59 GND (power), 60 M0 (in), 62 M2 (in), 69 GND (power), 75 GND (power), 77 VCCINT (power), 83 GND (power), 88 VCCINT (power), 91 GND (power), 98 GND (power), 104 VCCINT (power), 106 GND (power), 112 GND (power), 119 GND (power), 120 DONE (io), 122 PROGRAM (in), 129 GND (power), 135 GND (power), 137 VCCINT (power), 143 GND (power), 148 VCCINT (power), 151 GND (power), 158 GND (power), 164 VCCINT (power), 166 GND (power), 172 GND (power), 179 CCLK (io), 181 TDO (out), 182 GND (power), 183 TDI (in), 190 GND (power), 196 GND (power), 198 VCCINT (power), 204 GND (power), 211 GND (power), 214 VCCINT (power), 219 GND (power), 225 VCCINT (power), 227 GND (power), 233 GND (power), 239 TCK (in)

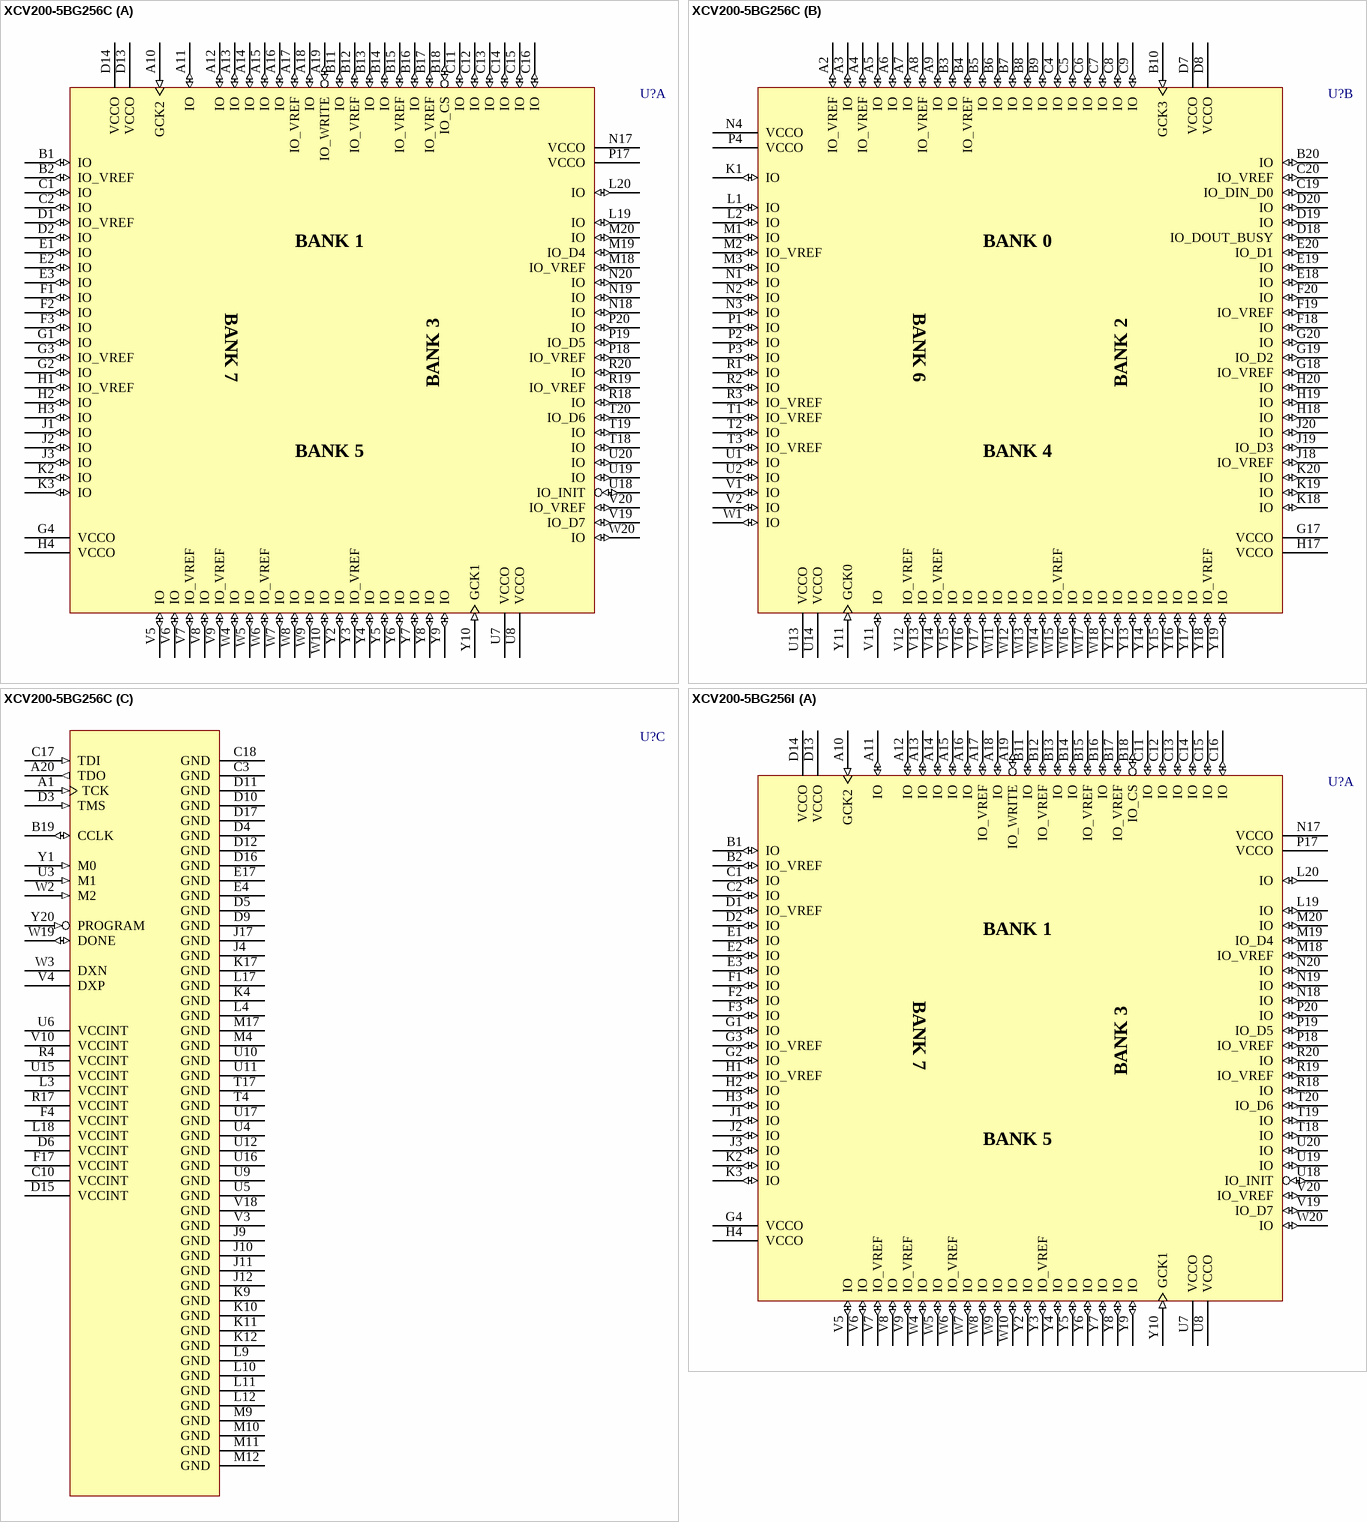
[diagram p102: symbols XCV200-5BG256C to XCV200-5BG256I]